# Altium integrated library AD Microcontroller ARM.IntLib: 47 symbols (part 1 of 3)
Pins are listed as number, name and electrical type; pins without a type are passive.

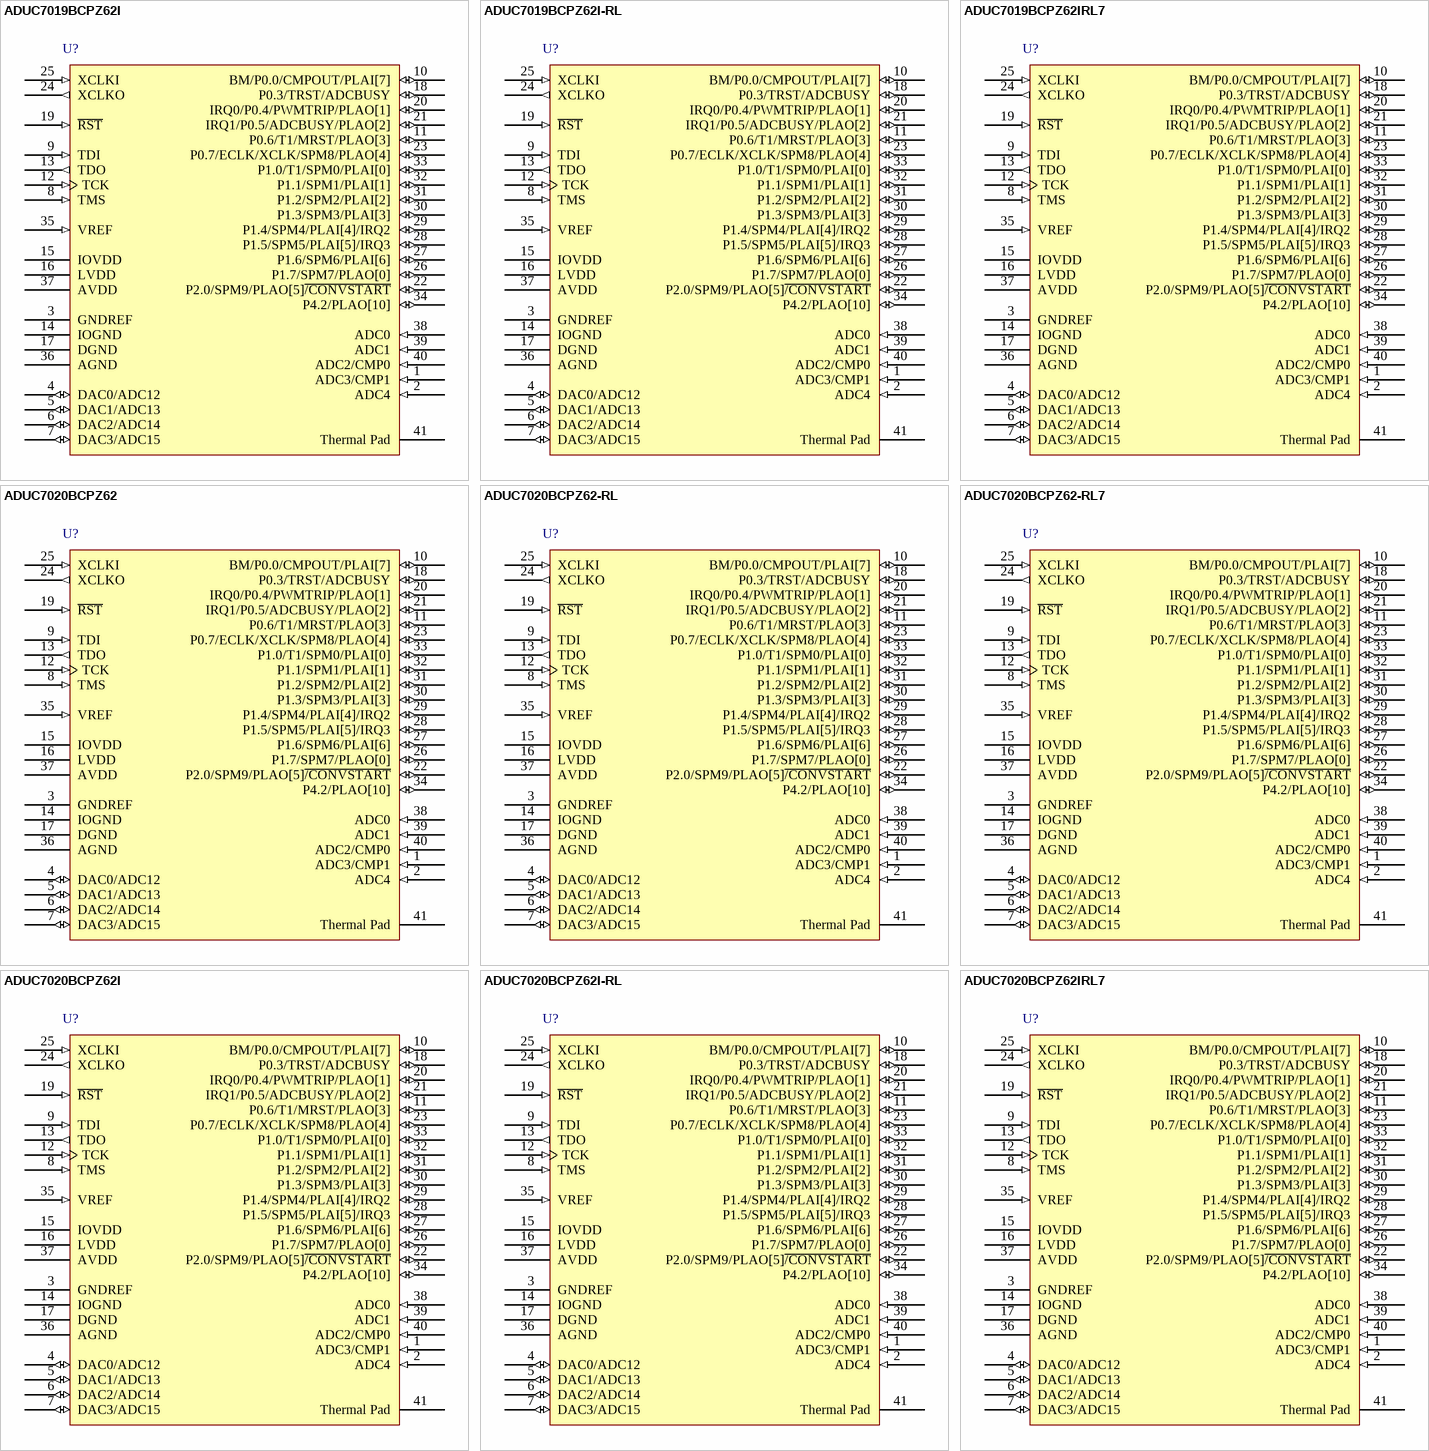
[diagram p0: symbols ADUC7019BCPZ62I to ADUC7020BCPZ62IRL7]

## ADUC7019BCPZ62I
designator U?
12-Bit Data Acquisition SOC, 40 MIPS ARM7 Flash MCU, 5 Channel ADC, 3 Channel DAC, 14 I/Os, 40-Pin LFCSP_VQ, Pb-Free; Published: 30-Mar-2007; DatasheetVersion: RevA, Jan-2006; PackageVersion: Oct-2006; PackageReference: CP-40-1; Publisher: Altium Limited; PackageDescription: 40-Pin Lead Frame Chip Scale Package [LFCSP_VQ] Very Thin Quad; Code_JEDEC: MO-220-VJJD-2; ComponentLink1Description: Manufacturer Link; ComponentLink1URL: http://www.analog.com/en/prod/0,,762_0_ADUC7019%2C00.html; ComponentLink2Description: Datasheet; ComponentLink2URL: http://www.analog.com/UploadedFiles/Data_Sheets/ADUC7019_7020_7021_7022_7024_7025_7026_7027.pdf; ComponentLink3Description: Packaging Specification; ComponentLink3URL: http://www.analog.com/UploadedFiles/Packages/121879268CP_40_1.pdf
footprint CP-40-1_N (QFN, 40-Leads, Body 6x6mm, Pitch 0.5mm, IPC Medium Density)
footprint CP-40-1_L (QFN, 40-Leads, Body 6x6mm, Pitch 0.5mm, IPC High Density)
footprint CP-40-1_M (QFN, 40-Leads, Body 6x6mm, Pitch 0.5mm, IPC Low Density)
pins: 1 ADC3/CMP1 (in), 2 ADC4 (in), 3 GNDREF (power), 4 DAC0/ADC12 (io), 5 DAC1/ADC13 (io), 6 DAC2/ADC14 (io), 7 DAC3/ADC15 (io), 8 TMS (in), 9 TDI (in), 10 BM/P0.0/CMPOUT/PLAI[7] (io), 11 P0.6/T1/MRST/PLAO[3] (io), 12 TCK (in), 13 TDO (out), 14 IOGND (power), 15 IOVDD (power), 16 LVDD (power), 17 DGND (power), 18 P0.3/TRST/ADCBUSY (io), 19 ~{RST} (in), 20 IRQ0/P0.4/PWMTRIP/PLAO[1] (io), 21 IRQ1/P0.5/ADCBUSY/PLAO[2] (io), 22 P2.0/SPM9/PLAO[5]~{/CONVSTART} (io), 23 P0.7/ECLK/XCLK/SPM8/PLAO[4] (io), 24 XCLKO (out), 25 XCLKI (in), 26 P1.7/SPM7/PLAO[0] (io), 27 P1.6/SPM6/PLAI[6] (io), 28 P1.5/SPM5/PLAI[5]/IRQ3 (io), 29 P1.4/SPM4/PLAI[4]/IRQ2 (io), 30 P1.3/SPM3/PLAI[3] (io), 31 P1.2/SPM2/PLAI[2] (io), 32 P1.1/SPM1/PLAI[1] (io), 33 P1.0/T1/SPM0/PLAI[0] (io), 34 P4.2/PLAO[10] (io), 35 VREF (in), 36 AGND (power), 37 AVDD (power), 38 ADC0 (in), 39 ADC1 (in), 40 ADC2/CMP0 (in), 41 Thermal Pad

## ADUC7019BCPZ62I-RL
designator U?
12-Bit Data Acquisition SOC, 40 MIPS ARM7 Flash MCU, 5 Channel ADC, 3 Channel DAC, 14 I/Os, 40-Pin LFCSP_VQ, Pb-Free; Published: 30-Mar-2007; DatasheetVersion: RevA, Jan-2006; PackageVersion: Oct-2006; PackageReference: CP-40-1; Publisher: Altium Limited; PackageDescription: 40-Pin Lead Frame Chip Scale Package [LFCSP_VQ] Very Thin Quad; Code_JEDEC: MO-220-VJJD-2; ComponentLink1Description: Manufacturer Link; ComponentLink1URL: http://www.analog.com/en/prod/0,,762_0_ADUC7019%2C00.html; ComponentLink2Description: Datasheet; ComponentLink2URL: http://www.analog.com/UploadedFiles/Data_Sheets/ADUC7019_7020_7021_7022_7024_7025_7026_7027.pdf; ComponentLink3Description: Packaging Specification; ComponentLink3URL: http://www.analog.com/UploadedFiles/Packages/121879268CP_40_1.pdf
footprint CP-40-1_N (QFN, 40-Leads, Body 6x6mm, Pitch 0.5mm, IPC Medium Density)
footprint CP-40-1_L (QFN, 40-Leads, Body 6x6mm, Pitch 0.5mm, IPC High Density)
footprint CP-40-1_M (QFN, 40-Leads, Body 6x6mm, Pitch 0.5mm, IPC Low Density)
pins: 1 ADC3/CMP1 (in), 2 ADC4 (in), 3 GNDREF (power), 4 DAC0/ADC12 (io), 5 DAC1/ADC13 (io), 6 DAC2/ADC14 (io), 7 DAC3/ADC15 (io), 8 TMS (in), 9 TDI (in), 10 BM/P0.0/CMPOUT/PLAI[7] (io), 11 P0.6/T1/MRST/PLAO[3] (io), 12 TCK (in), 13 TDO (out), 14 IOGND (power), 15 IOVDD (power), 16 LVDD (power), 17 DGND (power), 18 P0.3/TRST/ADCBUSY (io), 19 ~{RST} (in), 20 IRQ0/P0.4/PWMTRIP/PLAO[1] (io), 21 IRQ1/P0.5/ADCBUSY/PLAO[2] (io), 22 P2.0/SPM9/PLAO[5]~{/CONVSTART} (io), 23 P0.7/ECLK/XCLK/SPM8/PLAO[4] (io), 24 XCLKO (out), 25 XCLKI (in), 26 P1.7/SPM7/PLAO[0] (io), 27 P1.6/SPM6/PLAI[6] (io), 28 P1.5/SPM5/PLAI[5]/IRQ3 (io), 29 P1.4/SPM4/PLAI[4]/IRQ2 (io), 30 P1.3/SPM3/PLAI[3] (io), 31 P1.2/SPM2/PLAI[2] (io), 32 P1.1/SPM1/PLAI[1] (io), 33 P1.0/T1/SPM0/PLAI[0] (io), 34 P4.2/PLAO[10] (io), 35 VREF (in), 36 AGND (power), 37 AVDD (power), 38 ADC0 (in), 39 ADC1 (in), 40 ADC2/CMP0 (in), 41 Thermal Pad

## ADUC7019BCPZ62IRL7
designator U?
12-Bit Data Acquisition SOC, 40 MIPS ARM7 Flash MCU, 5 Channel ADC, 3 Channel DAC, 14 I/Os, 40-Pin LFCSP_VQ, Pb-Free; Published: 30-Mar-2007; DatasheetVersion: RevA, Jan-2006; PackageVersion: Oct-2006; PackageReference: CP-40-1; Publisher: Altium Limited; PackageDescription: 40-Pin Lead Frame Chip Scale Package [LFCSP_VQ] Very Thin Quad; Code_JEDEC: MO-220-VJJD-2; ComponentLink1Description: Manufacturer Link; ComponentLink1URL: http://www.analog.com/en/prod/0,,762_0_ADUC7019%2C00.html; ComponentLink2Description: Datasheet; ComponentLink2URL: http://www.analog.com/UploadedFiles/Data_Sheets/ADUC7019_7020_7021_7022_7024_7025_7026_7027.pdf; ComponentLink3Description: Packaging Specification; ComponentLink3URL: http://www.analog.com/UploadedFiles/Packages/121879268CP_40_1.pdf
footprint CP-40-1_N (QFN, 40-Leads, Body 6x6mm, Pitch 0.5mm, IPC Medium Density)
footprint CP-40-1_L (QFN, 40-Leads, Body 6x6mm, Pitch 0.5mm, IPC High Density)
footprint CP-40-1_M (QFN, 40-Leads, Body 6x6mm, Pitch 0.5mm, IPC Low Density)
pins: 1 ADC3/CMP1 (in), 2 ADC4 (in), 3 GNDREF (power), 4 DAC0/ADC12 (io), 5 DAC1/ADC13 (io), 6 DAC2/ADC14 (io), 7 DAC3/ADC15 (io), 8 TMS (in), 9 TDI (in), 10 BM/P0.0/CMPOUT/PLAI[7] (io), 11 P0.6/T1/MRST/PLAO[3] (io), 12 TCK (in), 13 TDO (out), 14 IOGND (power), 15 IOVDD (power), 16 LVDD (power), 17 DGND (power), 18 P0.3/TRST/ADCBUSY (io), 19 ~{RST} (in), 20 IRQ0/P0.4/PWMTRIP/PLAO[1] (io), 21 IRQ1/P0.5/ADCBUSY/PLAO[2] (io), 22 P2.0/SPM9/PLAO[5]~{/CONVSTART} (io), 23 P0.7/ECLK/XCLK/SPM8/PLAO[4] (io), 24 XCLKO (out), 25 XCLKI (in), 26 P1.7/SPM7/PLAO[0] (io), 27 P1.6/SPM6/PLAI[6] (io), 28 P1.5/SPM5/PLAI[5]/IRQ3 (io), 29 P1.4/SPM4/PLAI[4]/IRQ2 (io), 30 P1.3/SPM3/PLAI[3] (io), 31 P1.2/SPM2/PLAI[2] (io), 32 P1.1/SPM1/PLAI[1] (io), 33 P1.0/T1/SPM0/PLAI[0] (io), 34 P4.2/PLAO[10] (io), 35 VREF (in), 36 AGND (power), 37 AVDD (power), 38 ADC0 (in), 39 ADC1 (in), 40 ADC2/CMP0 (in), 41 Thermal Pad

## ADUC7020BCPZ62
designator U?
12-Bit Data Acquisition SOC, 40 MIPS ARM7 Flash MCU, 5 Channel ADC, 4 Channel DAC, 14 I/Os, 40-Pin LFCSP_VQ, Pb-Free; Published: 30-Mar-2007; DatasheetVersion: RevA, Jan-2006; PackageVersion: Oct-2006; PackageReference: CP-40-1; Publisher: Altium Limited; PackageDescription: 40-Pin Lead Frame Chip Scale Package [LFCSP_VQ] Very Thin Quad; Code_JEDEC: MO-220-VJJD-2; ComponentLink1Description: Manufacturer Link; ComponentLink1URL: http://www.analog.com/en/prod/0,,762_0_ADUC7020%2C00.html; ComponentLink2Description: Datasheet; ComponentLink2URL: http://www.analog.com/UploadedFiles/Data_Sheets/ADUC7019_7020_7021_7022_7024_7025_7026_7027.pdf; ComponentLink3Description: Packaging Specification; ComponentLink3URL: http://www.analog.com/UploadedFiles/Packages/121879268CP_40_1.pdf
footprint CP-40-1_N (QFN, 40-Leads, Body 6x6mm, Pitch 0.5mm, IPC Medium Density)
footprint CP-40-1_L (QFN, 40-Leads, Body 6x6mm, Pitch 0.5mm, IPC High Density)
footprint CP-40-1_M (QFN, 40-Leads, Body 6x6mm, Pitch 0.5mm, IPC Low Density)
pins: 1 ADC3/CMP1 (in), 2 ADC4 (in), 3 GNDREF (power), 4 DAC0/ADC12 (io), 5 DAC1/ADC13 (io), 6 DAC2/ADC14 (io), 7 DAC3/ADC15 (io), 8 TMS (in), 9 TDI (in), 10 BM/P0.0/CMPOUT/PLAI[7] (io), 11 P0.6/T1/MRST/PLAO[3] (io), 12 TCK (in), 13 TDO (out), 14 IOGND (power), 15 IOVDD (power), 16 LVDD (power), 17 DGND (power), 18 P0.3/TRST/ADCBUSY (io), 19 ~{RST} (in), 20 IRQ0/P0.4/PWMTRIP/PLAO[1] (io), 21 IRQ1/P0.5/ADCBUSY/PLAO[2] (io), 22 P2.0/SPM9/PLAO[5]~{/CONVSTART} (io), 23 P0.7/ECLK/XCLK/SPM8/PLAO[4] (io), 24 XCLKO (out), 25 XCLKI (in), 26 P1.7/SPM7/PLAO[0] (io), 27 P1.6/SPM6/PLAI[6] (io), 28 P1.5/SPM5/PLAI[5]/IRQ3 (io), 29 P1.4/SPM4/PLAI[4]/IRQ2 (io), 30 P1.3/SPM3/PLAI[3] (io), 31 P1.2/SPM2/PLAI[2] (io), 32 P1.1/SPM1/PLAI[1] (io), 33 P1.0/T1/SPM0/PLAI[0] (io), 34 P4.2/PLAO[10] (io), 35 VREF (in), 36 AGND (power), 37 AVDD (power), 38 ADC0 (in), 39 ADC1 (in), 40 ADC2/CMP0 (in), 41 Thermal Pad

## ADUC7020BCPZ62-RL
designator U?
12-Bit Data Acquisition SOC, 40 MIPS ARM7 Flash MCU, 5 Channel ADC, 4 Channel DAC, 14 I/Os, 40-Pin LFCSP_VQ, Pb-Free; Published: 30-Mar-2007; DatasheetVersion: RevA, Jan-2006; PackageVersion: Oct-2006; PackageReference: CP-40-1; Publisher: Altium Limited; PackageDescription: 40-Pin Lead Frame Chip Scale Package [LFCSP_VQ] Very Thin Quad; Code_JEDEC: MO-220-VJJD-2; ComponentLink1Description: Manufacturer Link; ComponentLink1URL: http://www.analog.com/en/prod/0,,762_0_ADUC7020%2C00.html; ComponentLink2Description: Datasheet; ComponentLink2URL: http://www.analog.com/UploadedFiles/Data_Sheets/ADUC7019_7020_7021_7022_7024_7025_7026_7027.pdf; ComponentLink3Description: Packaging Specification; ComponentLink3URL: http://www.analog.com/UploadedFiles/Packages/121879268CP_40_1.pdf
footprint CP-40-1_N (QFN, 40-Leads, Body 6x6mm, Pitch 0.5mm, IPC Medium Density)
footprint CP-40-1_L (QFN, 40-Leads, Body 6x6mm, Pitch 0.5mm, IPC High Density)
footprint CP-40-1_M (QFN, 40-Leads, Body 6x6mm, Pitch 0.5mm, IPC Low Density)
pins: 1 ADC3/CMP1 (in), 2 ADC4 (in), 3 GNDREF (power), 4 DAC0/ADC12 (io), 5 DAC1/ADC13 (io), 6 DAC2/ADC14 (io), 7 DAC3/ADC15 (io), 8 TMS (in), 9 TDI (in), 10 BM/P0.0/CMPOUT/PLAI[7] (io), 11 P0.6/T1/MRST/PLAO[3] (io), 12 TCK (in), 13 TDO (out), 14 IOGND (power), 15 IOVDD (power), 16 LVDD (power), 17 DGND (power), 18 P0.3/TRST/ADCBUSY (io), 19 ~{RST} (in), 20 IRQ0/P0.4/PWMTRIP/PLAO[1] (io), 21 IRQ1/P0.5/ADCBUSY/PLAO[2] (io), 22 P2.0/SPM9/PLAO[5]~{/CONVSTART} (io), 23 P0.7/ECLK/XCLK/SPM8/PLAO[4] (io), 24 XCLKO (out), 25 XCLKI (in), 26 P1.7/SPM7/PLAO[0] (io), 27 P1.6/SPM6/PLAI[6] (io), 28 P1.5/SPM5/PLAI[5]/IRQ3 (io), 29 P1.4/SPM4/PLAI[4]/IRQ2 (io), 30 P1.3/SPM3/PLAI[3] (io), 31 P1.2/SPM2/PLAI[2] (io), 32 P1.1/SPM1/PLAI[1] (io), 33 P1.0/T1/SPM0/PLAI[0] (io), 34 P4.2/PLAO[10] (io), 35 VREF (in), 36 AGND (power), 37 AVDD (power), 38 ADC0 (in), 39 ADC1 (in), 40 ADC2/CMP0 (in), 41 Thermal Pad

## ADUC7020BCPZ62-RL7
designator U?
12-Bit Data Acquisition SOC, 40 MIPS ARM7 Flash MCU, 5 Channel ADC, 4 Channel DAC, 14 I/Os, 40-Pin LFCSP_VQ, Pb-Free; Published: 30-Mar-2007; DatasheetVersion: RevA, Jan-2006; PackageVersion: Oct-2006; PackageReference: CP-40-1; Publisher: Altium Limited; PackageDescription: 40-Pin Lead Frame Chip Scale Package [LFCSP_VQ] Very Thin Quad; Code_JEDEC: MO-220-VJJD-2; ComponentLink1Description: Manufacturer Link; ComponentLink1URL: http://www.analog.com/en/prod/0,,762_0_ADUC7020%2C00.html; ComponentLink2Description: Datasheet; ComponentLink2URL: http://www.analog.com/UploadedFiles/Data_Sheets/ADUC7019_7020_7021_7022_7024_7025_7026_7027.pdf; ComponentLink3Description: Packaging Specification; ComponentLink3URL: http://www.analog.com/UploadedFiles/Packages/121879268CP_40_1.pdf
footprint CP-40-1_N (QFN, 40-Leads, Body 6x6mm, Pitch 0.5mm, IPC Medium Density)
footprint CP-40-1_L (QFN, 40-Leads, Body 6x6mm, Pitch 0.5mm, IPC High Density)
footprint CP-40-1_M (QFN, 40-Leads, Body 6x6mm, Pitch 0.5mm, IPC Low Density)
pins: 1 ADC3/CMP1 (in), 2 ADC4 (in), 3 GNDREF (power), 4 DAC0/ADC12 (io), 5 DAC1/ADC13 (io), 6 DAC2/ADC14 (io), 7 DAC3/ADC15 (io), 8 TMS (in), 9 TDI (in), 10 BM/P0.0/CMPOUT/PLAI[7] (io), 11 P0.6/T1/MRST/PLAO[3] (io), 12 TCK (in), 13 TDO (out), 14 IOGND (power), 15 IOVDD (power), 16 LVDD (power), 17 DGND (power), 18 P0.3/TRST/ADCBUSY (io), 19 ~{RST} (in), 20 IRQ0/P0.4/PWMTRIP/PLAO[1] (io), 21 IRQ1/P0.5/ADCBUSY/PLAO[2] (io), 22 P2.0/SPM9/PLAO[5]~{/CONVSTART} (io), 23 P0.7/ECLK/XCLK/SPM8/PLAO[4] (io), 24 XCLKO (out), 25 XCLKI (in), 26 P1.7/SPM7/PLAO[0] (io), 27 P1.6/SPM6/PLAI[6] (io), 28 P1.5/SPM5/PLAI[5]/IRQ3 (io), 29 P1.4/SPM4/PLAI[4]/IRQ2 (io), 30 P1.3/SPM3/PLAI[3] (io), 31 P1.2/SPM2/PLAI[2] (io), 32 P1.1/SPM1/PLAI[1] (io), 33 P1.0/T1/SPM0/PLAI[0] (io), 34 P4.2/PLAO[10] (io), 35 VREF (in), 36 AGND (power), 37 AVDD (power), 38 ADC0 (in), 39 ADC1 (in), 40 ADC2/CMP0 (in), 41 Thermal Pad

## ADUC7020BCPZ62I
designator U?
12-Bit Data Acquisition SOC, 40 MIPS ARM7 Flash MCU, 5 Channel ADC, 4 Channel DAC, 14 I/Os, 40-Pin LFCSP_VQ, Pb-Free; Published: 30-Mar-2007; DatasheetVersion: RevA, Jan-2006; PackageVersion: Oct-2006; PackageReference: CP-40-1; Publisher: Altium Limited; PackageDescription: 40-Pin Lead Frame Chip Scale Package [LFCSP_VQ] Very Thin Quad; Code_JEDEC: MO-220-VJJD-2; ComponentLink1Description: Manufacturer Link; ComponentLink1URL: http://www.analog.com/en/prod/0,,762_0_ADUC7020%2C00.html; ComponentLink2Description: Datasheet; ComponentLink2URL: http://www.analog.com/UploadedFiles/Data_Sheets/ADUC7019_7020_7021_7022_7024_7025_7026_7027.pdf; ComponentLink3Description: Packaging Specification; ComponentLink3URL: http://www.analog.com/UploadedFiles/Packages/121879268CP_40_1.pdf
footprint CP-40-1_N (QFN, 40-Leads, Body 6x6mm, Pitch 0.5mm, IPC Medium Density)
footprint CP-40-1_L (QFN, 40-Leads, Body 6x6mm, Pitch 0.5mm, IPC High Density)
footprint CP-40-1_M (QFN, 40-Leads, Body 6x6mm, Pitch 0.5mm, IPC Low Density)
pins: 1 ADC3/CMP1 (in), 2 ADC4 (in), 3 GNDREF (power), 4 DAC0/ADC12 (io), 5 DAC1/ADC13 (io), 6 DAC2/ADC14 (io), 7 DAC3/ADC15 (io), 8 TMS (in), 9 TDI (in), 10 BM/P0.0/CMPOUT/PLAI[7] (io), 11 P0.6/T1/MRST/PLAO[3] (io), 12 TCK (in), 13 TDO (out), 14 IOGND (power), 15 IOVDD (power), 16 LVDD (power), 17 DGND (power), 18 P0.3/TRST/ADCBUSY (io), 19 ~{RST} (in), 20 IRQ0/P0.4/PWMTRIP/PLAO[1] (io), 21 IRQ1/P0.5/ADCBUSY/PLAO[2] (io), 22 P2.0/SPM9/PLAO[5]~{/CONVSTART} (io), 23 P0.7/ECLK/XCLK/SPM8/PLAO[4] (io), 24 XCLKO (out), 25 XCLKI (in), 26 P1.7/SPM7/PLAO[0] (io), 27 P1.6/SPM6/PLAI[6] (io), 28 P1.5/SPM5/PLAI[5]/IRQ3 (io), 29 P1.4/SPM4/PLAI[4]/IRQ2 (io), 30 P1.3/SPM3/PLAI[3] (io), 31 P1.2/SPM2/PLAI[2] (io), 32 P1.1/SPM1/PLAI[1] (io), 33 P1.0/T1/SPM0/PLAI[0] (io), 34 P4.2/PLAO[10] (io), 35 VREF (in), 36 AGND (power), 37 AVDD (power), 38 ADC0 (in), 39 ADC1 (in), 40 ADC2/CMP0 (in), 41 Thermal Pad

## ADUC7020BCPZ62I-RL
designator U?
12-Bit Data Acquisition SOC, 40 MIPS ARM7 Flash MCU, 5 Channel ADC, 4 Channel DAC, 14 I/Os, 40-Pin LFCSP_VQ, Pb-Free; Published: 30-Mar-2007; DatasheetVersion: RevA, Jan-2006; PackageVersion: Oct-2006; PackageReference: CP-40-1; Publisher: Altium Limited; PackageDescription: 40-Pin Lead Frame Chip Scale Package [LFCSP_VQ] Very Thin Quad; Code_JEDEC: MO-220-VJJD-2; ComponentLink1Description: Manufacturer Link; ComponentLink1URL: http://www.analog.com/en/prod/0,,762_0_ADUC7020%2C00.html; ComponentLink2Description: Datasheet; ComponentLink2URL: http://www.analog.com/UploadedFiles/Data_Sheets/ADUC7019_7020_7021_7022_7024_7025_7026_7027.pdf; ComponentLink3Description: Packaging Specification; ComponentLink3URL: http://www.analog.com/UploadedFiles/Packages/121879268CP_40_1.pdf
footprint CP-40-1_N (QFN, 40-Leads, Body 6x6mm, Pitch 0.5mm, IPC Medium Density)
footprint CP-40-1_L (QFN, 40-Leads, Body 6x6mm, Pitch 0.5mm, IPC High Density)
footprint CP-40-1_M (QFN, 40-Leads, Body 6x6mm, Pitch 0.5mm, IPC Low Density)
pins: 1 ADC3/CMP1 (in), 2 ADC4 (in), 3 GNDREF (power), 4 DAC0/ADC12 (io), 5 DAC1/ADC13 (io), 6 DAC2/ADC14 (io), 7 DAC3/ADC15 (io), 8 TMS (in), 9 TDI (in), 10 BM/P0.0/CMPOUT/PLAI[7] (io), 11 P0.6/T1/MRST/PLAO[3] (io), 12 TCK (in), 13 TDO (out), 14 IOGND (power), 15 IOVDD (power), 16 LVDD (power), 17 DGND (power), 18 P0.3/TRST/ADCBUSY (io), 19 ~{RST} (in), 20 IRQ0/P0.4/PWMTRIP/PLAO[1] (io), 21 IRQ1/P0.5/ADCBUSY/PLAO[2] (io), 22 P2.0/SPM9/PLAO[5]~{/CONVSTART} (io), 23 P0.7/ECLK/XCLK/SPM8/PLAO[4] (io), 24 XCLKO (out), 25 XCLKI (in), 26 P1.7/SPM7/PLAO[0] (io), 27 P1.6/SPM6/PLAI[6] (io), 28 P1.5/SPM5/PLAI[5]/IRQ3 (io), 29 P1.4/SPM4/PLAI[4]/IRQ2 (io), 30 P1.3/SPM3/PLAI[3] (io), 31 P1.2/SPM2/PLAI[2] (io), 32 P1.1/SPM1/PLAI[1] (io), 33 P1.0/T1/SPM0/PLAI[0] (io), 34 P4.2/PLAO[10] (io), 35 VREF (in), 36 AGND (power), 37 AVDD (power), 38 ADC0 (in), 39 ADC1 (in), 40 ADC2/CMP0 (in), 41 Thermal Pad

## ADUC7020BCPZ62IRL7
designator U?
12-Bit Data Acquisition SOC, 40 MIPS ARM7 Flash MCU, 5 Channel ADC, 4 Channel DAC, 14 I/Os, 40-Pin LFCSP_VQ, Pb-Free; Published: 30-Mar-2007; DatasheetVersion: RevA, Jan-2006; PackageVersion: Oct-2006; PackageReference: CP-40-1; Publisher: Altium Limited; PackageDescription: 40-Pin Lead Frame Chip Scale Package [LFCSP_VQ] Very Thin Quad; Code_JEDEC: MO-220-VJJD-2; ComponentLink1Description: Manufacturer Link; ComponentLink1URL: http://www.analog.com/en/prod/0,,762_0_ADUC7020%2C00.html; ComponentLink2Description: Datasheet; ComponentLink2URL: http://www.analog.com/UploadedFiles/Data_Sheets/ADUC7019_7020_7021_7022_7024_7025_7026_7027.pdf; ComponentLink3Description: Packaging Specification; ComponentLink3URL: http://www.analog.com/UploadedFiles/Packages/121879268CP_40_1.pdf
footprint CP-40-1_N (QFN, 40-Leads, Body 6x6mm, Pitch 0.5mm, IPC Medium Density)
footprint CP-40-1_L (QFN, 40-Leads, Body 6x6mm, Pitch 0.5mm, IPC High Density)
footprint CP-40-1_M (QFN, 40-Leads, Body 6x6mm, Pitch 0.5mm, IPC Low Density)
pins: 1 ADC3/CMP1 (in), 2 ADC4 (in), 3 GNDREF (power), 4 DAC0/ADC12 (io), 5 DAC1/ADC13 (io), 6 DAC2/ADC14 (io), 7 DAC3/ADC15 (io), 8 TMS (in), 9 TDI (in), 10 BM/P0.0/CMPOUT/PLAI[7] (io), 11 P0.6/T1/MRST/PLAO[3] (io), 12 TCK (in), 13 TDO (out), 14 IOGND (power), 15 IOVDD (power), 16 LVDD (power), 17 DGND (power), 18 P0.3/TRST/ADCBUSY (io), 19 ~{RST} (in), 20 IRQ0/P0.4/PWMTRIP/PLAO[1] (io), 21 IRQ1/P0.5/ADCBUSY/PLAO[2] (io), 22 P2.0/SPM9/PLAO[5]~{/CONVSTART} (io), 23 P0.7/ECLK/XCLK/SPM8/PLAO[4] (io), 24 XCLKO (out), 25 XCLKI (in), 26 P1.7/SPM7/PLAO[0] (io), 27 P1.6/SPM6/PLAI[6] (io), 28 P1.5/SPM5/PLAI[5]/IRQ3 (io), 29 P1.4/SPM4/PLAI[4]/IRQ2 (io), 30 P1.3/SPM3/PLAI[3] (io), 31 P1.2/SPM2/PLAI[2] (io), 32 P1.1/SPM1/PLAI[1] (io), 33 P1.0/T1/SPM0/PLAI[0] (io), 34 P4.2/PLAO[10] (io), 35 VREF (in), 36 AGND (power), 37 AVDD (power), 38 ADC0 (in), 39 ADC1 (in), 40 ADC2/CMP0 (in), 41 Thermal Pad

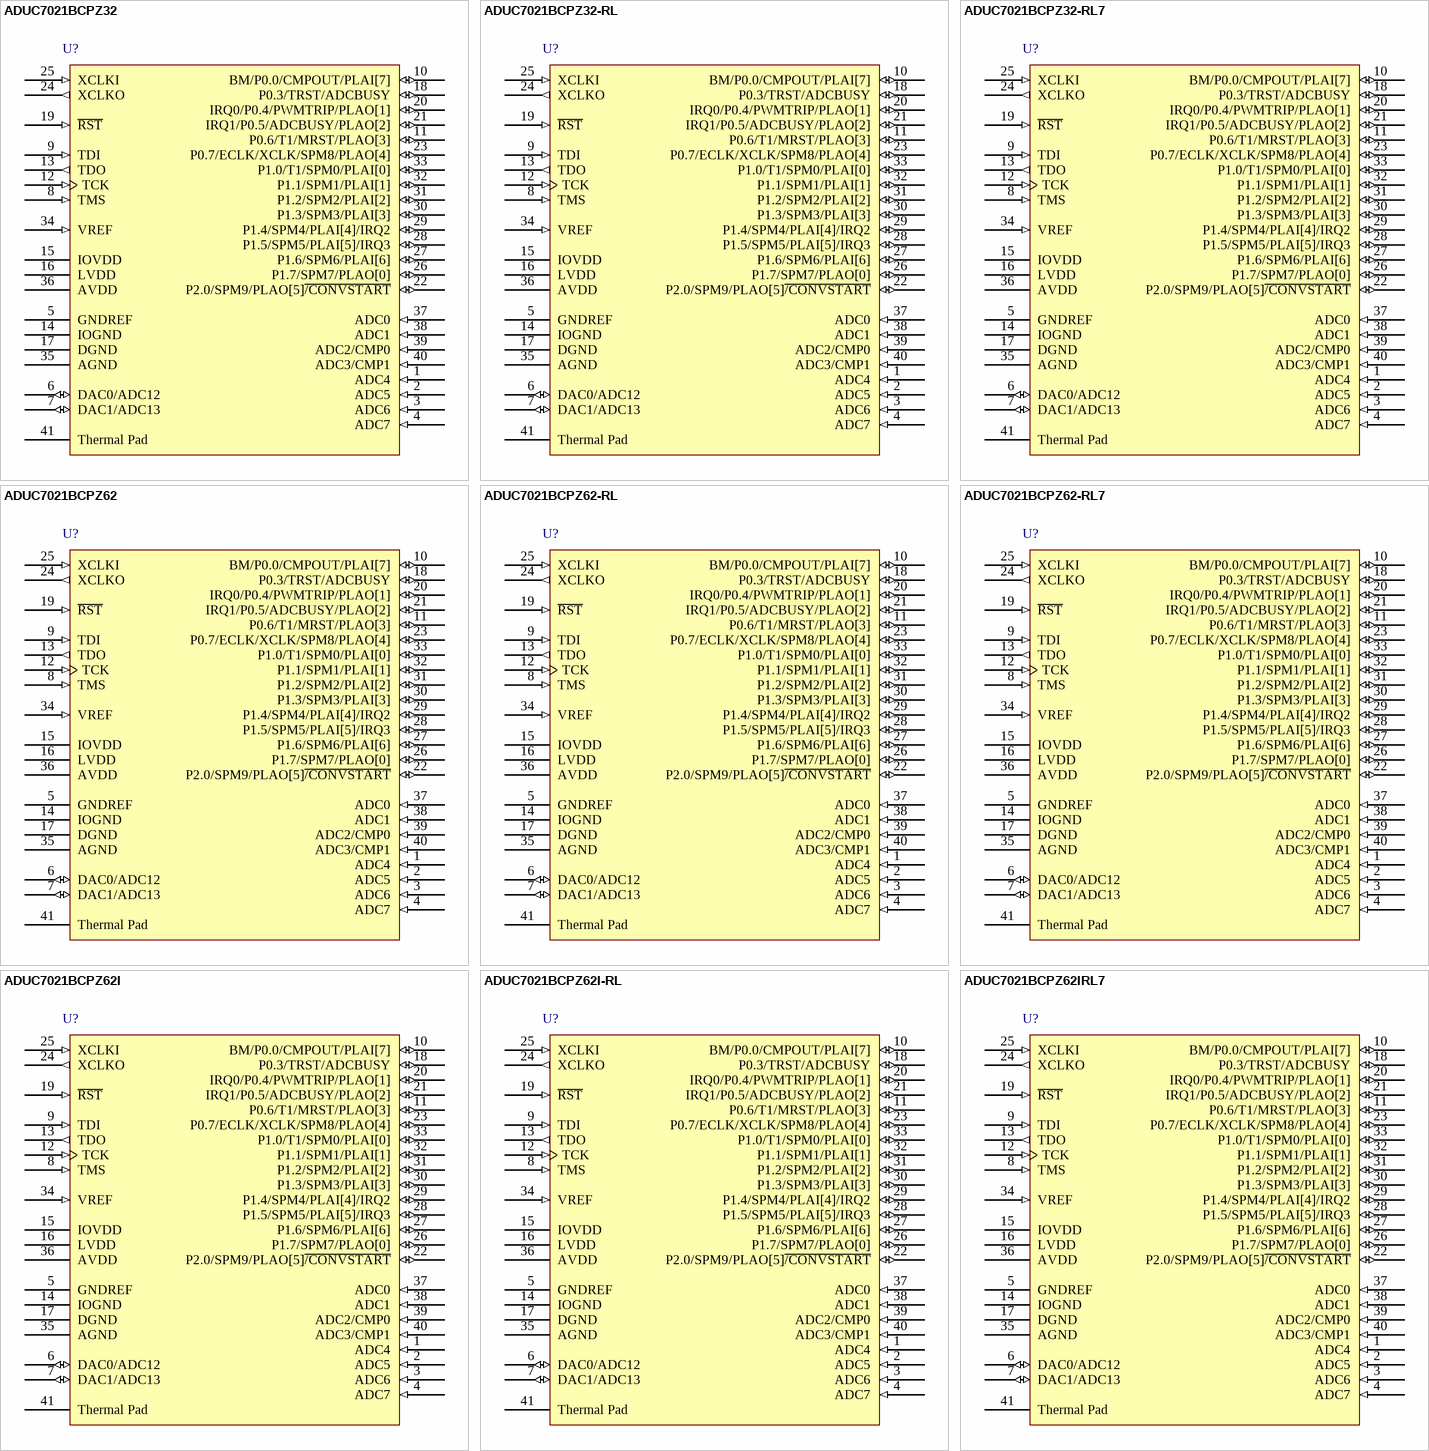
[diagram p1: symbols ADUC7021BCPZ32 to ADUC7021BCPZ62IRL7]

## ADUC7021BCPZ32
designator U?
12-Bit Data Acquisition SOC, 40 MIPS ARM7 Flash MCU, 8 Channel ADC, 2 Channel DAC, 13 I/Os, 40-Pin LFCSP_VQ, Pb-Free; Published: 30-Mar-2007; DatasheetVersion: RevA, Jan-2006; PackageVersion: Oct-2006; PackageReference: CP-40-1; Publisher: Altium Limited; PackageDescription: 40-Pin Lead Frame Chip Scale Package [LFCSP_VQ] Very Thin Quad; Code_JEDEC: MO-220-VJJD-2; ComponentLink1Description: Manufacturer Link; ComponentLink1URL: http://www.analog.com/en/prod/0,,762_0_ADUC7021%2C00.html; ComponentLink2Description: Datasheet; ComponentLink2URL: http://www.analog.com/UploadedFiles/Data_Sheets/ADUC7019_7020_7021_7022_7024_7025_7026_7027.pdf; ComponentLink3Description: Packaging Specification; ComponentLink3URL: http://www.analog.com/UploadedFiles/Packages/121879268CP_40_1.pdf
footprint CP-40-1_N (QFN, 40-Leads, Body 6x6mm, Pitch 0.5mm, IPC Medium Density)
footprint CP-40-1_L (QFN, 40-Leads, Body 6x6mm, Pitch 0.5mm, IPC High Density)
footprint CP-40-1_M (QFN, 40-Leads, Body 6x6mm, Pitch 0.5mm, IPC Low Density)
pins: 1 ADC4 (in), 2 ADC5 (in), 3 ADC6 (in), 4 ADC7 (in), 5 GNDREF (power), 6 DAC0/ADC12 (io), 7 DAC1/ADC13 (io), 8 TMS (in), 9 TDI (in), 10 BM/P0.0/CMPOUT/PLAI[7] (io), 11 P0.6/T1/MRST/PLAO[3] (io), 12 TCK (in), 13 TDO (out), 14 IOGND (power), 15 IOVDD (power), 16 LVDD (power), 17 DGND (power), 18 P0.3/TRST/ADCBUSY (io), 19 ~{RST} (in), 20 IRQ0/P0.4/PWMTRIP/PLAO[1] (io), 21 IRQ1/P0.5/ADCBUSY/PLAO[2] (io), 22 P2.0/SPM9/PLAO[5]~{/CONVSTART} (io), 23 P0.7/ECLK/XCLK/SPM8/PLAO[4] (io), 24 XCLKO (out), 25 XCLKI (in), 26 P1.7/SPM7/PLAO[0] (io), 27 P1.6/SPM6/PLAI[6] (io), 28 P1.5/SPM5/PLAI[5]/IRQ3 (io), 29 P1.4/SPM4/PLAI[4]/IRQ2 (io), 30 P1.3/SPM3/PLAI[3] (io), 31 P1.2/SPM2/PLAI[2] (io), 32 P1.1/SPM1/PLAI[1] (io), 33 P1.0/T1/SPM0/PLAI[0] (io), 34 VREF (in), 35 AGND (power), 36 AVDD (power), 37 ADC0 (in), 38 ADC1 (in), 39 ADC2/CMP0 (in), 40 ADC3/CMP1 (in), 41 Thermal Pad

## ADUC7021BCPZ32-RL
designator U?
12-Bit Data Acquisition SOC, 40 MIPS ARM7 Flash MCU, 8 Channel ADC, 2 Channel DAC, 13 I/Os, 40-Pin LFCSP_VQ, Pb-Free; Published: 30-Mar-2007; DatasheetVersion: RevA, Jan-2006; PackageVersion: Oct-2006; PackageReference: CP-40-1; Publisher: Altium Limited; PackageDescription: 40-Pin Lead Frame Chip Scale Package [LFCSP_VQ] Very Thin Quad; Code_JEDEC: MO-220-VJJD-2; ComponentLink1Description: Manufacturer Link; ComponentLink1URL: http://www.analog.com/en/prod/0,,762_0_ADUC7021%2C00.html; ComponentLink2Description: Datasheet; ComponentLink2URL: http://www.analog.com/UploadedFiles/Data_Sheets/ADUC7019_7020_7021_7022_7024_7025_7026_7027.pdf; ComponentLink3Description: Packaging Specification; ComponentLink3URL: http://www.analog.com/UploadedFiles/Packages/121879268CP_40_1.pdf
footprint CP-40-1_N (QFN, 40-Leads, Body 6x6mm, Pitch 0.5mm, IPC Medium Density)
footprint CP-40-1_L (QFN, 40-Leads, Body 6x6mm, Pitch 0.5mm, IPC High Density)
footprint CP-40-1_M (QFN, 40-Leads, Body 6x6mm, Pitch 0.5mm, IPC Low Density)
pins: 1 ADC4 (in), 2 ADC5 (in), 3 ADC6 (in), 4 ADC7 (in), 5 GNDREF (power), 6 DAC0/ADC12 (io), 7 DAC1/ADC13 (io), 8 TMS (in), 9 TDI (in), 10 BM/P0.0/CMPOUT/PLAI[7] (io), 11 P0.6/T1/MRST/PLAO[3] (io), 12 TCK (in), 13 TDO (out), 14 IOGND (power), 15 IOVDD (power), 16 LVDD (power), 17 DGND (power), 18 P0.3/TRST/ADCBUSY (io), 19 ~{RST} (in), 20 IRQ0/P0.4/PWMTRIP/PLAO[1] (io), 21 IRQ1/P0.5/ADCBUSY/PLAO[2] (io), 22 P2.0/SPM9/PLAO[5]~{/CONVSTART} (io), 23 P0.7/ECLK/XCLK/SPM8/PLAO[4] (io), 24 XCLKO (out), 25 XCLKI (in), 26 P1.7/SPM7/PLAO[0] (io), 27 P1.6/SPM6/PLAI[6] (io), 28 P1.5/SPM5/PLAI[5]/IRQ3 (io), 29 P1.4/SPM4/PLAI[4]/IRQ2 (io), 30 P1.3/SPM3/PLAI[3] (io), 31 P1.2/SPM2/PLAI[2] (io), 32 P1.1/SPM1/PLAI[1] (io), 33 P1.0/T1/SPM0/PLAI[0] (io), 34 VREF (in), 35 AGND (power), 36 AVDD (power), 37 ADC0 (in), 38 ADC1 (in), 39 ADC2/CMP0 (in), 40 ADC3/CMP1 (in), 41 Thermal Pad

## ADUC7021BCPZ32-RL7
designator U?
12-Bit Data Acquisition SOC, 40 MIPS ARM7 Flash MCU, 8 Channel ADC, 2 Channel DAC, 13 I/Os, 40-Pin LFCSP_VQ, Pb-Free; Published: 30-Mar-2007; DatasheetVersion: RevA, Jan-2006; PackageVersion: Oct-2006; PackageReference: CP-40-1; Publisher: Altium Limited; PackageDescription: 40-Pin Lead Frame Chip Scale Package [LFCSP_VQ] Very Thin Quad; Code_JEDEC: MO-220-VJJD-2; ComponentLink1Description: Manufacturer Link; ComponentLink1URL: http://www.analog.com/en/prod/0,,762_0_ADUC7021%2C00.html; ComponentLink2Description: Datasheet; ComponentLink2URL: http://www.analog.com/UploadedFiles/Data_Sheets/ADUC7019_7020_7021_7022_7024_7025_7026_7027.pdf; ComponentLink3Description: Packaging Specification; ComponentLink3URL: http://www.analog.com/UploadedFiles/Packages/121879268CP_40_1.pdf
footprint CP-40-1_N (QFN, 40-Leads, Body 6x6mm, Pitch 0.5mm, IPC Medium Density)
footprint CP-40-1_L (QFN, 40-Leads, Body 6x6mm, Pitch 0.5mm, IPC High Density)
footprint CP-40-1_M (QFN, 40-Leads, Body 6x6mm, Pitch 0.5mm, IPC Low Density)
pins: 1 ADC4 (in), 2 ADC5 (in), 3 ADC6 (in), 4 ADC7 (in), 5 GNDREF (power), 6 DAC0/ADC12 (io), 7 DAC1/ADC13 (io), 8 TMS (in), 9 TDI (in), 10 BM/P0.0/CMPOUT/PLAI[7] (io), 11 P0.6/T1/MRST/PLAO[3] (io), 12 TCK (in), 13 TDO (out), 14 IOGND (power), 15 IOVDD (power), 16 LVDD (power), 17 DGND (power), 18 P0.3/TRST/ADCBUSY (io), 19 ~{RST} (in), 20 IRQ0/P0.4/PWMTRIP/PLAO[1] (io), 21 IRQ1/P0.5/ADCBUSY/PLAO[2] (io), 22 P2.0/SPM9/PLAO[5]~{/CONVSTART} (io), 23 P0.7/ECLK/XCLK/SPM8/PLAO[4] (io), 24 XCLKO (out), 25 XCLKI (in), 26 P1.7/SPM7/PLAO[0] (io), 27 P1.6/SPM6/PLAI[6] (io), 28 P1.5/SPM5/PLAI[5]/IRQ3 (io), 29 P1.4/SPM4/PLAI[4]/IRQ2 (io), 30 P1.3/SPM3/PLAI[3] (io), 31 P1.2/SPM2/PLAI[2] (io), 32 P1.1/SPM1/PLAI[1] (io), 33 P1.0/T1/SPM0/PLAI[0] (io), 34 VREF (in), 35 AGND (power), 36 AVDD (power), 37 ADC0 (in), 38 ADC1 (in), 39 ADC2/CMP0 (in), 40 ADC3/CMP1 (in), 41 Thermal Pad

## ADUC7021BCPZ62
designator U?
12-Bit Data Acquisition SOC, 40 MIPS ARM7 Flash MCU, 8 Channel ADC, 2 Channel DAC, 13 I/Os, 40-Pin LFCSP_VQ, Pb-Free; Published: 30-Mar-2007; DatasheetVersion: RevA, Jan-2006; PackageVersion: Oct-2006; PackageReference: CP-40-1; Publisher: Altium Limited; PackageDescription: 40-Pin Lead Frame Chip Scale Package [LFCSP_VQ] Very Thin Quad; Code_JEDEC: MO-220-VJJD-2; ComponentLink1Description: Manufacturer Link; ComponentLink1URL: http://www.analog.com/en/prod/0,,762_0_ADUC7021%2C00.html; ComponentLink2Description: Datasheet; ComponentLink2URL: http://www.analog.com/UploadedFiles/Data_Sheets/ADUC7019_7020_7021_7022_7024_7025_7026_7027.pdf; ComponentLink3Description: Packaging Specification; ComponentLink3URL: http://www.analog.com/UploadedFiles/Packages/121879268CP_40_1.pdf
footprint CP-40-1_N (QFN, 40-Leads, Body 6x6mm, Pitch 0.5mm, IPC Medium Density)
footprint CP-40-1_L (QFN, 40-Leads, Body 6x6mm, Pitch 0.5mm, IPC High Density)
footprint CP-40-1_M (QFN, 40-Leads, Body 6x6mm, Pitch 0.5mm, IPC Low Density)
pins: 1 ADC4 (in), 2 ADC5 (in), 3 ADC6 (in), 4 ADC7 (in), 5 GNDREF (power), 6 DAC0/ADC12 (io), 7 DAC1/ADC13 (io), 8 TMS (in), 9 TDI (in), 10 BM/P0.0/CMPOUT/PLAI[7] (io), 11 P0.6/T1/MRST/PLAO[3] (io), 12 TCK (in), 13 TDO (out), 14 IOGND (power), 15 IOVDD (power), 16 LVDD (power), 17 DGND (power), 18 P0.3/TRST/ADCBUSY (io), 19 ~{RST} (in), 20 IRQ0/P0.4/PWMTRIP/PLAO[1] (io), 21 IRQ1/P0.5/ADCBUSY/PLAO[2] (io), 22 P2.0/SPM9/PLAO[5]~{/CONVSTART} (io), 23 P0.7/ECLK/XCLK/SPM8/PLAO[4] (io), 24 XCLKO (out), 25 XCLKI (in), 26 P1.7/SPM7/PLAO[0] (io), 27 P1.6/SPM6/PLAI[6] (io), 28 P1.5/SPM5/PLAI[5]/IRQ3 (io), 29 P1.4/SPM4/PLAI[4]/IRQ2 (io), 30 P1.3/SPM3/PLAI[3] (io), 31 P1.2/SPM2/PLAI[2] (io), 32 P1.1/SPM1/PLAI[1] (io), 33 P1.0/T1/SPM0/PLAI[0] (io), 34 VREF (in), 35 AGND (power), 36 AVDD (power), 37 ADC0 (in), 38 ADC1 (in), 39 ADC2/CMP0 (in), 40 ADC3/CMP1 (in), 41 Thermal Pad

## ADUC7021BCPZ62-RL
designator U?
12-Bit Data Acquisition SOC, 40 MIPS ARM7 Flash MCU, 8 Channel ADC, 2 Channel DAC, 13 I/Os, 40-Pin LFCSP_VQ, Pb-Free; Published: 30-Mar-2007; DatasheetVersion: RevA, Jan-2006; PackageVersion: Oct-2006; PackageReference: CP-40-1; Publisher: Altium Limited; PackageDescription: 40-Pin Lead Frame Chip Scale Package [LFCSP_VQ] Very Thin Quad; Code_JEDEC: MO-220-VJJD-2; ComponentLink1Description: Manufacturer Link; ComponentLink1URL: http://www.analog.com/en/prod/0,,762_0_ADUC7021%2C00.html; ComponentLink2Description: Datasheet; ComponentLink2URL: http://www.analog.com/UploadedFiles/Data_Sheets/ADUC7019_7020_7021_7022_7024_7025_7026_7027.pdf; ComponentLink3Description: Packaging Specification; ComponentLink3URL: http://www.analog.com/UploadedFiles/Packages/121879268CP_40_1.pdf
footprint CP-40-1_N (QFN, 40-Leads, Body 6x6mm, Pitch 0.5mm, IPC Medium Density)
footprint CP-40-1_L (QFN, 40-Leads, Body 6x6mm, Pitch 0.5mm, IPC High Density)
footprint CP-40-1_M (QFN, 40-Leads, Body 6x6mm, Pitch 0.5mm, IPC Low Density)
pins: 1 ADC4 (in), 2 ADC5 (in), 3 ADC6 (in), 4 ADC7 (in), 5 GNDREF (power), 6 DAC0/ADC12 (io), 7 DAC1/ADC13 (io), 8 TMS (in), 9 TDI (in), 10 BM/P0.0/CMPOUT/PLAI[7] (io), 11 P0.6/T1/MRST/PLAO[3] (io), 12 TCK (in), 13 TDO (out), 14 IOGND (power), 15 IOVDD (power), 16 LVDD (power), 17 DGND (power), 18 P0.3/TRST/ADCBUSY (io), 19 ~{RST} (in), 20 IRQ0/P0.4/PWMTRIP/PLAO[1] (io), 21 IRQ1/P0.5/ADCBUSY/PLAO[2] (io), 22 P2.0/SPM9/PLAO[5]~{/CONVSTART} (io), 23 P0.7/ECLK/XCLK/SPM8/PLAO[4] (io), 24 XCLKO (out), 25 XCLKI (in), 26 P1.7/SPM7/PLAO[0] (io), 27 P1.6/SPM6/PLAI[6] (io), 28 P1.5/SPM5/PLAI[5]/IRQ3 (io), 29 P1.4/SPM4/PLAI[4]/IRQ2 (io), 30 P1.3/SPM3/PLAI[3] (io), 31 P1.2/SPM2/PLAI[2] (io), 32 P1.1/SPM1/PLAI[1] (io), 33 P1.0/T1/SPM0/PLAI[0] (io), 34 VREF (in), 35 AGND (power), 36 AVDD (power), 37 ADC0 (in), 38 ADC1 (in), 39 ADC2/CMP0 (in), 40 ADC3/CMP1 (in), 41 Thermal Pad

## ADUC7021BCPZ62-RL7
designator U?
12-Bit Data Acquisition SOC, 40 MIPS ARM7 Flash MCU, 8 Channel ADC, 2 Channel DAC, 13 I/Os, 40-Pin LFCSP_VQ, Pb-Free; Published: 30-Mar-2007; DatasheetVersion: RevA, Jan-2006; PackageVersion: Oct-2006; PackageReference: CP-40-1; Publisher: Altium Limited; PackageDescription: 40-Pin Lead Frame Chip Scale Package [LFCSP_VQ] Very Thin Quad; Code_JEDEC: MO-220-VJJD-2; ComponentLink1Description: Manufacturer Link; ComponentLink1URL: http://www.analog.com/en/prod/0,,762_0_ADUC7021%2C00.html; ComponentLink2Description: Datasheet; ComponentLink2URL: http://www.analog.com/UploadedFiles/Data_Sheets/ADUC7019_7020_7021_7022_7024_7025_7026_7027.pdf; ComponentLink3Description: Packaging Specification; ComponentLink3URL: http://www.analog.com/UploadedFiles/Packages/121879268CP_40_1.pdf
footprint CP-40-1_N (QFN, 40-Leads, Body 6x6mm, Pitch 0.5mm, IPC Medium Density)
footprint CP-40-1_L (QFN, 40-Leads, Body 6x6mm, Pitch 0.5mm, IPC High Density)
footprint CP-40-1_M (QFN, 40-Leads, Body 6x6mm, Pitch 0.5mm, IPC Low Density)
pins: 1 ADC4 (in), 2 ADC5 (in), 3 ADC6 (in), 4 ADC7 (in), 5 GNDREF (power), 6 DAC0/ADC12 (io), 7 DAC1/ADC13 (io), 8 TMS (in), 9 TDI (in), 10 BM/P0.0/CMPOUT/PLAI[7] (io), 11 P0.6/T1/MRST/PLAO[3] (io), 12 TCK (in), 13 TDO (out), 14 IOGND (power), 15 IOVDD (power), 16 LVDD (power), 17 DGND (power), 18 P0.3/TRST/ADCBUSY (io), 19 ~{RST} (in), 20 IRQ0/P0.4/PWMTRIP/PLAO[1] (io), 21 IRQ1/P0.5/ADCBUSY/PLAO[2] (io), 22 P2.0/SPM9/PLAO[5]~{/CONVSTART} (io), 23 P0.7/ECLK/XCLK/SPM8/PLAO[4] (io), 24 XCLKO (out), 25 XCLKI (in), 26 P1.7/SPM7/PLAO[0] (io), 27 P1.6/SPM6/PLAI[6] (io), 28 P1.5/SPM5/PLAI[5]/IRQ3 (io), 29 P1.4/SPM4/PLAI[4]/IRQ2 (io), 30 P1.3/SPM3/PLAI[3] (io), 31 P1.2/SPM2/PLAI[2] (io), 32 P1.1/SPM1/PLAI[1] (io), 33 P1.0/T1/SPM0/PLAI[0] (io), 34 VREF (in), 35 AGND (power), 36 AVDD (power), 37 ADC0 (in), 38 ADC1 (in), 39 ADC2/CMP0 (in), 40 ADC3/CMP1 (in), 41 Thermal Pad

## ADUC7021BCPZ62I
designator U?
12-Bit Data Acquisition SOC, 40 MIPS ARM7 Flash MCU, 8 Channel ADC, 2 Channel DAC, 13 I/Os, 40-Pin LFCSP_VQ, Pb-Free; Published: 30-Mar-2007; DatasheetVersion: RevA, Jan-2006; PackageVersion: Oct-2006; PackageReference: CP-40-1; Publisher: Altium Limited; PackageDescription: 40-Pin Lead Frame Chip Scale Package [LFCSP_VQ] Very Thin Quad; Code_JEDEC: MO-220-VJJD-2; ComponentLink1Description: Manufacturer Link; ComponentLink1URL: http://www.analog.com/en/prod/0,,762_0_ADUC7021%2C00.html; ComponentLink2Description: Datasheet; ComponentLink2URL: http://www.analog.com/UploadedFiles/Data_Sheets/ADUC7019_7020_7021_7022_7024_7025_7026_7027.pdf; ComponentLink3Description: Packaging Specification; ComponentLink3URL: http://www.analog.com/UploadedFiles/Packages/121879268CP_40_1.pdf
footprint CP-40-1_N (QFN, 40-Leads, Body 6x6mm, Pitch 0.5mm, IPC Medium Density)
footprint CP-40-1_L (QFN, 40-Leads, Body 6x6mm, Pitch 0.5mm, IPC High Density)
footprint CP-40-1_M (QFN, 40-Leads, Body 6x6mm, Pitch 0.5mm, IPC Low Density)
pins: 1 ADC4 (in), 2 ADC5 (in), 3 ADC6 (in), 4 ADC7 (in), 5 GNDREF (power), 6 DAC0/ADC12 (io), 7 DAC1/ADC13 (io), 8 TMS (in), 9 TDI (in), 10 BM/P0.0/CMPOUT/PLAI[7] (io), 11 P0.6/T1/MRST/PLAO[3] (io), 12 TCK (in), 13 TDO (out), 14 IOGND (power), 15 IOVDD (power), 16 LVDD (power), 17 DGND (power), 18 P0.3/TRST/ADCBUSY (io), 19 ~{RST} (in), 20 IRQ0/P0.4/PWMTRIP/PLAO[1] (io), 21 IRQ1/P0.5/ADCBUSY/PLAO[2] (io), 22 P2.0/SPM9/PLAO[5]~{/CONVSTART} (io), 23 P0.7/ECLK/XCLK/SPM8/PLAO[4] (io), 24 XCLKO (out), 25 XCLKI (in), 26 P1.7/SPM7/PLAO[0] (io), 27 P1.6/SPM6/PLAI[6] (io), 28 P1.5/SPM5/PLAI[5]/IRQ3 (io), 29 P1.4/SPM4/PLAI[4]/IRQ2 (io), 30 P1.3/SPM3/PLAI[3] (io), 31 P1.2/SPM2/PLAI[2] (io), 32 P1.1/SPM1/PLAI[1] (io), 33 P1.0/T1/SPM0/PLAI[0] (io), 34 VREF (in), 35 AGND (power), 36 AVDD (power), 37 ADC0 (in), 38 ADC1 (in), 39 ADC2/CMP0 (in), 40 ADC3/CMP1 (in), 41 Thermal Pad

## ADUC7021BCPZ62I-RL
designator U?
12-Bit Data Acquisition SOC, 40 MIPS ARM7 Flash MCU, 8 Channel ADC, 2 Channel DAC, 13 I/Os, 40-Pin LFCSP_VQ, Pb-Free; Published: 30-Mar-2007; DatasheetVersion: RevA, Jan-2006; PackageVersion: Oct-2006; PackageReference: CP-40-1; Publisher: Altium Limited; PackageDescription: 40-Pin Lead Frame Chip Scale Package [LFCSP_VQ] Very Thin Quad; Code_JEDEC: MO-220-VJJD-2; ComponentLink1Description: Manufacturer Link; ComponentLink1URL: http://www.analog.com/en/prod/0,,762_0_ADUC7021%2C00.html; ComponentLink2Description: Datasheet; ComponentLink2URL: http://www.analog.com/UploadedFiles/Data_Sheets/ADUC7019_7020_7021_7022_7024_7025_7026_7027.pdf; ComponentLink3Description: Packaging Specification; ComponentLink3URL: http://www.analog.com/UploadedFiles/Packages/121879268CP_40_1.pdf
footprint CP-40-1_N (QFN, 40-Leads, Body 6x6mm, Pitch 0.5mm, IPC Medium Density)
footprint CP-40-1_L (QFN, 40-Leads, Body 6x6mm, Pitch 0.5mm, IPC High Density)
footprint CP-40-1_M (QFN, 40-Leads, Body 6x6mm, Pitch 0.5mm, IPC Low Density)
pins: 1 ADC4 (in), 2 ADC5 (in), 3 ADC6 (in), 4 ADC7 (in), 5 GNDREF (power), 6 DAC0/ADC12 (io), 7 DAC1/ADC13 (io), 8 TMS (in), 9 TDI (in), 10 BM/P0.0/CMPOUT/PLAI[7] (io), 11 P0.6/T1/MRST/PLAO[3] (io), 12 TCK (in), 13 TDO (out), 14 IOGND (power), 15 IOVDD (power), 16 LVDD (power), 17 DGND (power), 18 P0.3/TRST/ADCBUSY (io), 19 ~{RST} (in), 20 IRQ0/P0.4/PWMTRIP/PLAO[1] (io), 21 IRQ1/P0.5/ADCBUSY/PLAO[2] (io), 22 P2.0/SPM9/PLAO[5]~{/CONVSTART} (io), 23 P0.7/ECLK/XCLK/SPM8/PLAO[4] (io), 24 XCLKO (out), 25 XCLKI (in), 26 P1.7/SPM7/PLAO[0] (io), 27 P1.6/SPM6/PLAI[6] (io), 28 P1.5/SPM5/PLAI[5]/IRQ3 (io), 29 P1.4/SPM4/PLAI[4]/IRQ2 (io), 30 P1.3/SPM3/PLAI[3] (io), 31 P1.2/SPM2/PLAI[2] (io), 32 P1.1/SPM1/PLAI[1] (io), 33 P1.0/T1/SPM0/PLAI[0] (io), 34 VREF (in), 35 AGND (power), 36 AVDD (power), 37 ADC0 (in), 38 ADC1 (in), 39 ADC2/CMP0 (in), 40 ADC3/CMP1 (in), 41 Thermal Pad

## ADUC7021BCPZ62IRL7
designator U?
12-Bit Data Acquisition SOC, 40 MIPS ARM7 Flash MCU, 8 Channel ADC, 2 Channel DAC, 13 I/Os, 40-Pin LFCSP_VQ, Pb-Free; Published: 30-Mar-2007; DatasheetVersion: RevA, Jan-2006; PackageVersion: Oct-2006; PackageReference: CP-40-1; Publisher: Altium Limited; PackageDescription: 40-Pin Lead Frame Chip Scale Package [LFCSP_VQ] Very Thin Quad; Code_JEDEC: MO-220-VJJD-2; ComponentLink1Description: Manufacturer Link; ComponentLink1URL: http://www.analog.com/en/prod/0,,762_0_ADUC7021%2C00.html; ComponentLink2Description: Datasheet; ComponentLink2URL: http://www.analog.com/UploadedFiles/Data_Sheets/ADUC7019_7020_7021_7022_7024_7025_7026_7027.pdf; ComponentLink3Description: Packaging Specification; ComponentLink3URL: http://www.analog.com/UploadedFiles/Packages/121879268CP_40_1.pdf
footprint CP-40-1_N (QFN, 40-Leads, Body 6x6mm, Pitch 0.5mm, IPC Medium Density)
footprint CP-40-1_L (QFN, 40-Leads, Body 6x6mm, Pitch 0.5mm, IPC High Density)
footprint CP-40-1_M (QFN, 40-Leads, Body 6x6mm, Pitch 0.5mm, IPC Low Density)
pins: 1 ADC4 (in), 2 ADC5 (in), 3 ADC6 (in), 4 ADC7 (in), 5 GNDREF (power), 6 DAC0/ADC12 (io), 7 DAC1/ADC13 (io), 8 TMS (in), 9 TDI (in), 10 BM/P0.0/CMPOUT/PLAI[7] (io), 11 P0.6/T1/MRST/PLAO[3] (io), 12 TCK (in), 13 TDO (out), 14 IOGND (power), 15 IOVDD (power), 16 LVDD (power), 17 DGND (power), 18 P0.3/TRST/ADCBUSY (io), 19 ~{RST} (in), 20 IRQ0/P0.4/PWMTRIP/PLAO[1] (io), 21 IRQ1/P0.5/ADCBUSY/PLAO[2] (io), 22 P2.0/SPM9/PLAO[5]~{/CONVSTART} (io), 23 P0.7/ECLK/XCLK/SPM8/PLAO[4] (io), 24 XCLKO (out), 25 XCLKI (in), 26 P1.7/SPM7/PLAO[0] (io), 27 P1.6/SPM6/PLAI[6] (io), 28 P1.5/SPM5/PLAI[5]/IRQ3 (io), 29 P1.4/SPM4/PLAI[4]/IRQ2 (io), 30 P1.3/SPM3/PLAI[3] (io), 31 P1.2/SPM2/PLAI[2] (io), 32 P1.1/SPM1/PLAI[1] (io), 33 P1.0/T1/SPM0/PLAI[0] (io), 34 VREF (in), 35 AGND (power), 36 AVDD (power), 37 ADC0 (in), 38 ADC1 (in), 39 ADC2/CMP0 (in), 40 ADC3/CMP1 (in), 41 Thermal Pad

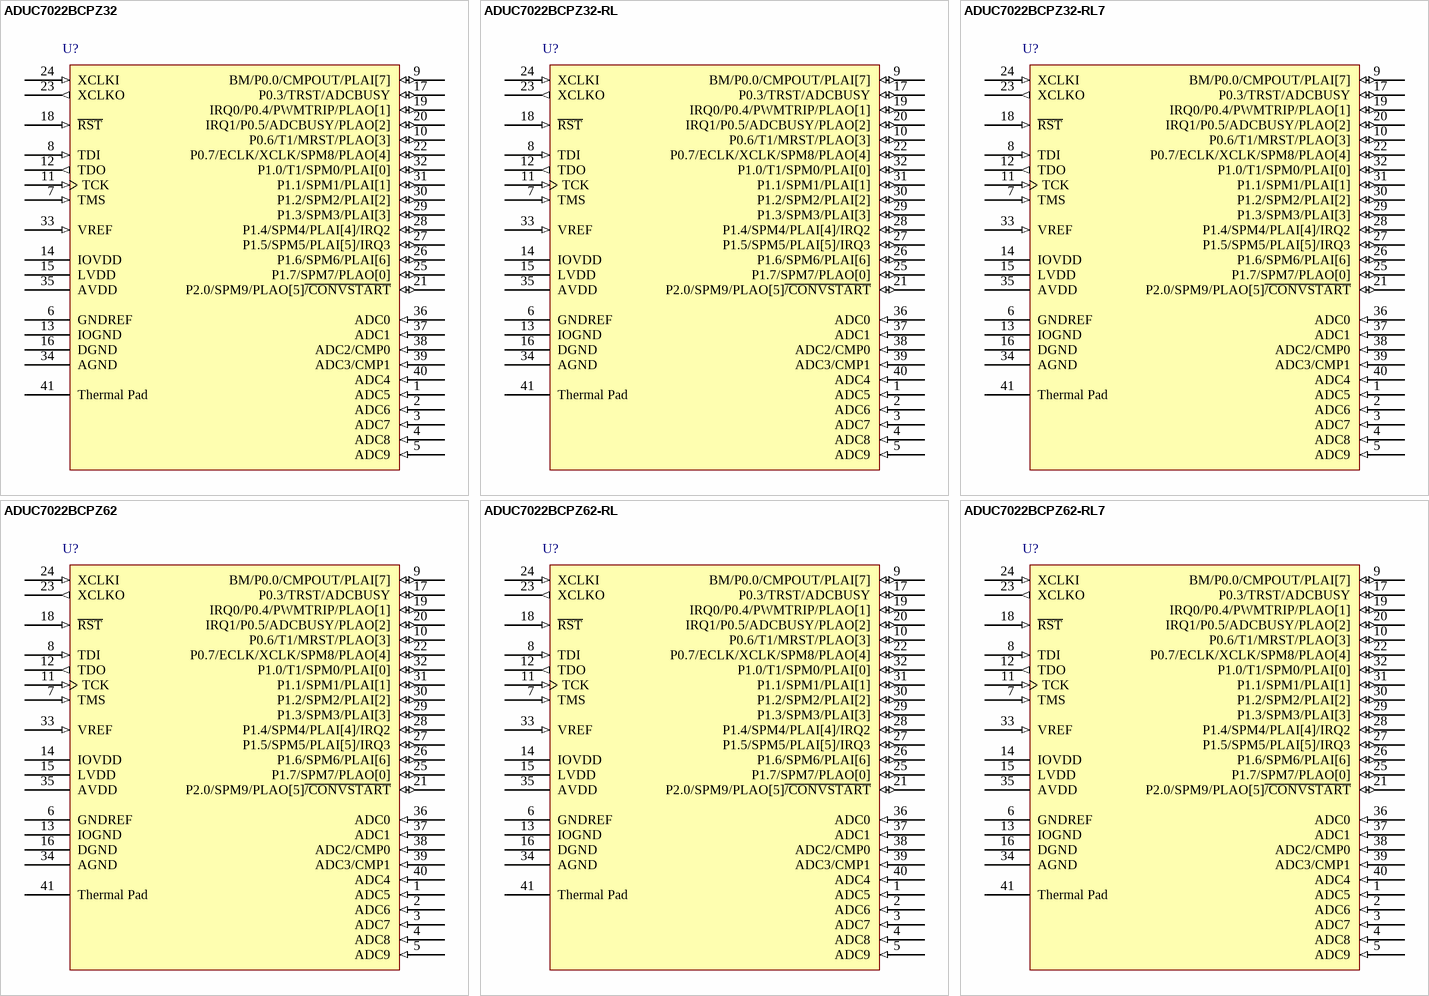
[diagram p2: symbols ADUC7022BCPZ32 to ADUC7022BCPZ62-RL7]

## ADUC7022BCPZ32
designator U?
12-Bit Data Acquisition SOC, 40 MIPS ARM7 Flash MCU, 10 Channel ADC, 13 I/Os, 40-Pin LFCSP_VQ, Pb-Free; Published: 30-Mar-2007; DatasheetVersion: RevA, Jan-2006; PackageVersion: Oct-2006; PackageReference: CP-40-1; Publisher: Altium Limited; PackageDescription: 40-Pin Lead Frame Chip Scale Package [LFCSP_VQ] Very Thin Quad; Code_JEDEC: MO-220-VJJD-2; ComponentLink1Description: Manufacturer Link; ComponentLink1URL: http://www.analog.com/en/prod/0,,762_0_ADUC7022%2C00.html; ComponentLink2Description: Datasheet; ComponentLink2URL: http://www.analog.com/UploadedFiles/Data_Sheets/ADUC7019_7020_7021_7022_7024_7025_7026_7027.pdf; ComponentLink3Description: Packaging Specification; ComponentLink3URL: http://www.analog.com/UploadedFiles/Packages/121879268CP_40_1.pdf
footprint CP-40-1_N (QFN, 40-Leads, Body 6x6mm, Pitch 0.5mm, IPC Medium Density)
footprint CP-40-1_L (QFN, 40-Leads, Body 6x6mm, Pitch 0.5mm, IPC High Density)
footprint CP-40-1_M (QFN, 40-Leads, Body 6x6mm, Pitch 0.5mm, IPC Low Density)
pins: 1 ADC5 (in), 2 ADC6 (in), 3 ADC7 (in), 4 ADC8 (in), 5 ADC9 (in), 6 GNDREF (power), 7 TMS (in), 8 TDI (in), 9 BM/P0.0/CMPOUT/PLAI[7] (io), 10 P0.6/T1/MRST/PLAO[3] (io), 11 TCK (in), 12 TDO (out), 13 IOGND (power), 14 IOVDD (power), 15 LVDD (power), 16 DGND (power), 17 P0.3/TRST/ADCBUSY (io), 18 ~{RST} (in), 19 IRQ0/P0.4/PWMTRIP/PLAO[1] (io), 20 IRQ1/P0.5/ADCBUSY/PLAO[2] (io), 21 P2.0/SPM9/PLAO[5]~{/CONVSTART} (io), 22 P0.7/ECLK/XCLK/SPM8/PLAO[4] (io), 23 XCLKO (out), 24 XCLKI (in), 25 P1.7/SPM7/PLAO[0] (io), 26 P1.6/SPM6/PLAI[6] (io), 27 P1.5/SPM5/PLAI[5]/IRQ3 (io), 28 P1.4/SPM4/PLAI[4]/IRQ2 (io), 29 P1.3/SPM3/PLAI[3] (io), 30 P1.2/SPM2/PLAI[2] (io), 31 P1.1/SPM1/PLAI[1] (io), 32 P1.0/T1/SPM0/PLAI[0] (io), 33 VREF (in), 34 AGND (power), 35 AVDD (power), 36 ADC0 (in), 37 ADC1 (in), 38 ADC2/CMP0 (in), 39 ADC3/CMP1 (in), 40 ADC4 (in), 41 Thermal Pad

## ADUC7022BCPZ32-RL
designator U?
12-Bit Data Acquisition SOC, 40 MIPS ARM7 Flash MCU, 10 Channel ADC, 13 I/Os, 40-Pin LFCSP_VQ, Pb-Free; Published: 30-Mar-2007; DatasheetVersion: RevA, Jan-2006; PackageVersion: Oct-2006; PackageReference: CP-40-1; Publisher: Altium Limited; PackageDescription: 40-Pin Lead Frame Chip Scale Package [LFCSP_VQ] Very Thin Quad; Code_JEDEC: MO-220-VJJD-2; ComponentLink1Description: Manufacturer Link; ComponentLink1URL: http://www.analog.com/en/prod/0,,762_0_ADUC7022%2C00.html; ComponentLink2Description: Datasheet; ComponentLink2URL: http://www.analog.com/UploadedFiles/Data_Sheets/ADUC7019_7020_7021_7022_7024_7025_7026_7027.pdf; ComponentLink3Description: Packaging Specification; ComponentLink3URL: http://www.analog.com/UploadedFiles/Packages/121879268CP_40_1.pdf
footprint CP-40-1_N (QFN, 40-Leads, Body 6x6mm, Pitch 0.5mm, IPC Medium Density)
footprint CP-40-1_L (QFN, 40-Leads, Body 6x6mm, Pitch 0.5mm, IPC High Density)
footprint CP-40-1_M (QFN, 40-Leads, Body 6x6mm, Pitch 0.5mm, IPC Low Density)
pins: 1 ADC5 (in), 2 ADC6 (in), 3 ADC7 (in), 4 ADC8 (in), 5 ADC9 (in), 6 GNDREF (power), 7 TMS (in), 8 TDI (in), 9 BM/P0.0/CMPOUT/PLAI[7] (io), 10 P0.6/T1/MRST/PLAO[3] (io), 11 TCK (in), 12 TDO (out), 13 IOGND (power), 14 IOVDD (power), 15 LVDD (power), 16 DGND (power), 17 P0.3/TRST/ADCBUSY (io), 18 ~{RST} (in), 19 IRQ0/P0.4/PWMTRIP/PLAO[1] (io), 20 IRQ1/P0.5/ADCBUSY/PLAO[2] (io), 21 P2.0/SPM9/PLAO[5]~{/CONVSTART} (io), 22 P0.7/ECLK/XCLK/SPM8/PLAO[4] (io), 23 XCLKO (out), 24 XCLKI (in), 25 P1.7/SPM7/PLAO[0] (io), 26 P1.6/SPM6/PLAI[6] (io), 27 P1.5/SPM5/PLAI[5]/IRQ3 (io), 28 P1.4/SPM4/PLAI[4]/IRQ2 (io), 29 P1.3/SPM3/PLAI[3] (io), 30 P1.2/SPM2/PLAI[2] (io), 31 P1.1/SPM1/PLAI[1] (io), 32 P1.0/T1/SPM0/PLAI[0] (io), 33 VREF (in), 34 AGND (power), 35 AVDD (power), 36 ADC0 (in), 37 ADC1 (in), 38 ADC2/CMP0 (in), 39 ADC3/CMP1 (in), 40 ADC4 (in), 41 Thermal Pad

## ADUC7022BCPZ32-RL7
designator U?
12-Bit Data Acquisition SOC, 40 MIPS ARM7 Flash MCU, 10 Channel ADC, 13 I/Os, 40-Pin LFCSP_VQ, Pb-Free; Published: 30-Mar-2007; DatasheetVersion: RevA, Jan-2006; PackageVersion: Oct-2006; PackageReference: CP-40-1; Publisher: Altium Limited; PackageDescription: 40-Pin Lead Frame Chip Scale Package [LFCSP_VQ] Very Thin Quad; Code_JEDEC: MO-220-VJJD-2; ComponentLink1Description: Manufacturer Link; ComponentLink1URL: http://www.analog.com/en/prod/0,,762_0_ADUC7022%2C00.html; ComponentLink2Description: Datasheet; ComponentLink2URL: http://www.analog.com/UploadedFiles/Data_Sheets/ADUC7019_7020_7021_7022_7024_7025_7026_7027.pdf; ComponentLink3Description: Packaging Specification; ComponentLink3URL: http://www.analog.com/UploadedFiles/Packages/121879268CP_40_1.pdf
footprint CP-40-1_N (QFN, 40-Leads, Body 6x6mm, Pitch 0.5mm, IPC Medium Density)
footprint CP-40-1_L (QFN, 40-Leads, Body 6x6mm, Pitch 0.5mm, IPC High Density)
footprint CP-40-1_M (QFN, 40-Leads, Body 6x6mm, Pitch 0.5mm, IPC Low Density)
pins: 1 ADC5 (in), 2 ADC6 (in), 3 ADC7 (in), 4 ADC8 (in), 5 ADC9 (in), 6 GNDREF (power), 7 TMS (in), 8 TDI (in), 9 BM/P0.0/CMPOUT/PLAI[7] (io), 10 P0.6/T1/MRST/PLAO[3] (io), 11 TCK (in), 12 TDO (out), 13 IOGND (power), 14 IOVDD (power), 15 LVDD (power), 16 DGND (power), 17 P0.3/TRST/ADCBUSY (io), 18 ~{RST} (in), 19 IRQ0/P0.4/PWMTRIP/PLAO[1] (io), 20 IRQ1/P0.5/ADCBUSY/PLAO[2] (io), 21 P2.0/SPM9/PLAO[5]~{/CONVSTART} (io), 22 P0.7/ECLK/XCLK/SPM8/PLAO[4] (io), 23 XCLKO (out), 24 XCLKI (in), 25 P1.7/SPM7/PLAO[0] (io), 26 P1.6/SPM6/PLAI[6] (io), 27 P1.5/SPM5/PLAI[5]/IRQ3 (io), 28 P1.4/SPM4/PLAI[4]/IRQ2 (io), 29 P1.3/SPM3/PLAI[3] (io), 30 P1.2/SPM2/PLAI[2] (io), 31 P1.1/SPM1/PLAI[1] (io), 32 P1.0/T1/SPM0/PLAI[0] (io), 33 VREF (in), 34 AGND (power), 35 AVDD (power), 36 ADC0 (in), 37 ADC1 (in), 38 ADC2/CMP0 (in), 39 ADC3/CMP1 (in), 40 ADC4 (in), 41 Thermal Pad

## ADUC7022BCPZ62
designator U?
12-Bit Data Acquisition SOC, 40 MIPS ARM7 Flash MCU, 10 Channel ADC, 13 I/Os, 40-Pin LFCSP_VQ, Pb-Free; Published: 30-Mar-2007; DatasheetVersion: RevA, Jan-2006; PackageVersion: Oct-2006; PackageReference: CP-40-1; Publisher: Altium Limited; PackageDescription: 40-Pin Lead Frame Chip Scale Package [LFCSP_VQ] Very Thin Quad; Code_JEDEC: MO-220-VJJD-2; ComponentLink1Description: Manufacturer Link; ComponentLink1URL: http://www.analog.com/en/prod/0,,762_0_ADUC7022%2C00.html; ComponentLink2Description: Datasheet; ComponentLink2URL: http://www.analog.com/UploadedFiles/Data_Sheets/ADUC7019_7020_7021_7022_7024_7025_7026_7027.pdf; ComponentLink3Description: Packaging Specification; ComponentLink3URL: http://www.analog.com/UploadedFiles/Packages/121879268CP_40_1.pdf
footprint CP-40-1_N (QFN, 40-Leads, Body 6x6mm, Pitch 0.5mm, IPC Medium Density)
footprint CP-40-1_L (QFN, 40-Leads, Body 6x6mm, Pitch 0.5mm, IPC High Density)
footprint CP-40-1_M (QFN, 40-Leads, Body 6x6mm, Pitch 0.5mm, IPC Low Density)
pins: 1 ADC5 (in), 2 ADC6 (in), 3 ADC7 (in), 4 ADC8 (in), 5 ADC9 (in), 6 GNDREF (power), 7 TMS (in), 8 TDI (in), 9 BM/P0.0/CMPOUT/PLAI[7] (io), 10 P0.6/T1/MRST/PLAO[3] (io), 11 TCK (in), 12 TDO (out), 13 IOGND (power), 14 IOVDD (power), 15 LVDD (power), 16 DGND (power), 17 P0.3/TRST/ADCBUSY (io), 18 ~{RST} (in), 19 IRQ0/P0.4/PWMTRIP/PLAO[1] (io), 20 IRQ1/P0.5/ADCBUSY/PLAO[2] (io), 21 P2.0/SPM9/PLAO[5]~{/CONVSTART} (io), 22 P0.7/ECLK/XCLK/SPM8/PLAO[4] (io), 23 XCLKO (out), 24 XCLKI (in), 25 P1.7/SPM7/PLAO[0] (io), 26 P1.6/SPM6/PLAI[6] (io), 27 P1.5/SPM5/PLAI[5]/IRQ3 (io), 28 P1.4/SPM4/PLAI[4]/IRQ2 (io), 29 P1.3/SPM3/PLAI[3] (io), 30 P1.2/SPM2/PLAI[2] (io), 31 P1.1/SPM1/PLAI[1] (io), 32 P1.0/T1/SPM0/PLAI[0] (io), 33 VREF (in), 34 AGND (power), 35 AVDD (power), 36 ADC0 (in), 37 ADC1 (in), 38 ADC2/CMP0 (in), 39 ADC3/CMP1 (in), 40 ADC4 (in), 41 Thermal Pad

## ADUC7022BCPZ62-RL
designator U?
12-Bit Data Acquisition SOC, 40 MIPS ARM7 Flash MCU, 10 Channel ADC, 13 I/Os, 40-Pin LFCSP_VQ, Pb-Free; Published: 30-Mar-2007; DatasheetVersion: RevA, Jan-2006; PackageVersion: Oct-2006; PackageReference: CP-40-1; Publisher: Altium Limited; PackageDescription: 40-Pin Lead Frame Chip Scale Package [LFCSP_VQ] Very Thin Quad; Code_JEDEC: MO-220-VJJD-2; ComponentLink1Description: Manufacturer Link; ComponentLink1URL: http://www.analog.com/en/prod/0,,762_0_ADUC7022%2C00.html; ComponentLink2Description: Datasheet; ComponentLink2URL: http://www.analog.com/UploadedFiles/Data_Sheets/ADUC7019_7020_7021_7022_7024_7025_7026_7027.pdf; ComponentLink3Description: Packaging Specification; ComponentLink3URL: http://www.analog.com/UploadedFiles/Packages/121879268CP_40_1.pdf
footprint CP-40-1_N (QFN, 40-Leads, Body 6x6mm, Pitch 0.5mm, IPC Medium Density)
footprint CP-40-1_L (QFN, 40-Leads, Body 6x6mm, Pitch 0.5mm, IPC High Density)
footprint CP-40-1_M (QFN, 40-Leads, Body 6x6mm, Pitch 0.5mm, IPC Low Density)
pins: 1 ADC5 (in), 2 ADC6 (in), 3 ADC7 (in), 4 ADC8 (in), 5 ADC9 (in), 6 GNDREF (power), 7 TMS (in), 8 TDI (in), 9 BM/P0.0/CMPOUT/PLAI[7] (io), 10 P0.6/T1/MRST/PLAO[3] (io), 11 TCK (in), 12 TDO (out), 13 IOGND (power), 14 IOVDD (power), 15 LVDD (power), 16 DGND (power), 17 P0.3/TRST/ADCBUSY (io), 18 ~{RST} (in), 19 IRQ0/P0.4/PWMTRIP/PLAO[1] (io), 20 IRQ1/P0.5/ADCBUSY/PLAO[2] (io), 21 P2.0/SPM9/PLAO[5]~{/CONVSTART} (io), 22 P0.7/ECLK/XCLK/SPM8/PLAO[4] (io), 23 XCLKO (out), 24 XCLKI (in), 25 P1.7/SPM7/PLAO[0] (io), 26 P1.6/SPM6/PLAI[6] (io), 27 P1.5/SPM5/PLAI[5]/IRQ3 (io), 28 P1.4/SPM4/PLAI[4]/IRQ2 (io), 29 P1.3/SPM3/PLAI[3] (io), 30 P1.2/SPM2/PLAI[2] (io), 31 P1.1/SPM1/PLAI[1] (io), 32 P1.0/T1/SPM0/PLAI[0] (io), 33 VREF (in), 34 AGND (power), 35 AVDD (power), 36 ADC0 (in), 37 ADC1 (in), 38 ADC2/CMP0 (in), 39 ADC3/CMP1 (in), 40 ADC4 (in), 41 Thermal Pad

## ADUC7022BCPZ62-RL7
designator U?
12-Bit Data Acquisition SOC, 40 MIPS ARM7 Flash MCU, 10 Channel ADC, 13 I/Os, 40-Pin LFCSP_VQ, Pb-Free; Published: 30-Mar-2007; DatasheetVersion: RevA, Jan-2006; PackageVersion: Oct-2006; PackageReference: CP-40-1; Publisher: Altium Limited; PackageDescription: 40-Pin Lead Frame Chip Scale Package [LFCSP_VQ] Very Thin Quad; Code_JEDEC: MO-220-VJJD-2; ComponentLink1Description: Manufacturer Link; ComponentLink1URL: http://www.analog.com/en/prod/0,,762_0_ADUC7022%2C00.html; ComponentLink2Description: Datasheet; ComponentLink2URL: http://www.analog.com/UploadedFiles/Data_Sheets/ADUC7019_7020_7021_7022_7024_7025_7026_7027.pdf; ComponentLink3Description: Packaging Specification; ComponentLink3URL: http://www.analog.com/UploadedFiles/Packages/121879268CP_40_1.pdf
footprint CP-40-1_N (QFN, 40-Leads, Body 6x6mm, Pitch 0.5mm, IPC Medium Density)
footprint CP-40-1_L (QFN, 40-Leads, Body 6x6mm, Pitch 0.5mm, IPC High Density)
footprint CP-40-1_M (QFN, 40-Leads, Body 6x6mm, Pitch 0.5mm, IPC Low Density)
pins: 1 ADC5 (in), 2 ADC6 (in), 3 ADC7 (in), 4 ADC8 (in), 5 ADC9 (in), 6 GNDREF (power), 7 TMS (in), 8 TDI (in), 9 BM/P0.0/CMPOUT/PLAI[7] (io), 10 P0.6/T1/MRST/PLAO[3] (io), 11 TCK (in), 12 TDO (out), 13 IOGND (power), 14 IOVDD (power), 15 LVDD (power), 16 DGND (power), 17 P0.3/TRST/ADCBUSY (io), 18 ~{RST} (in), 19 IRQ0/P0.4/PWMTRIP/PLAO[1] (io), 20 IRQ1/P0.5/ADCBUSY/PLAO[2] (io), 21 P2.0/SPM9/PLAO[5]~{/CONVSTART} (io), 22 P0.7/ECLK/XCLK/SPM8/PLAO[4] (io), 23 XCLKO (out), 24 XCLKI (in), 25 P1.7/SPM7/PLAO[0] (io), 26 P1.6/SPM6/PLAI[6] (io), 27 P1.5/SPM5/PLAI[5]/IRQ3 (io), 28 P1.4/SPM4/PLAI[4]/IRQ2 (io), 29 P1.3/SPM3/PLAI[3] (io), 30 P1.2/SPM2/PLAI[2] (io), 31 P1.1/SPM1/PLAI[1] (io), 32 P1.0/T1/SPM0/PLAI[0] (io), 33 VREF (in), 34 AGND (power), 35 AVDD (power), 36 ADC0 (in), 37 ADC1 (in), 38 ADC2/CMP0 (in), 39 ADC3/CMP1 (in), 40 ADC4 (in), 41 Thermal Pad

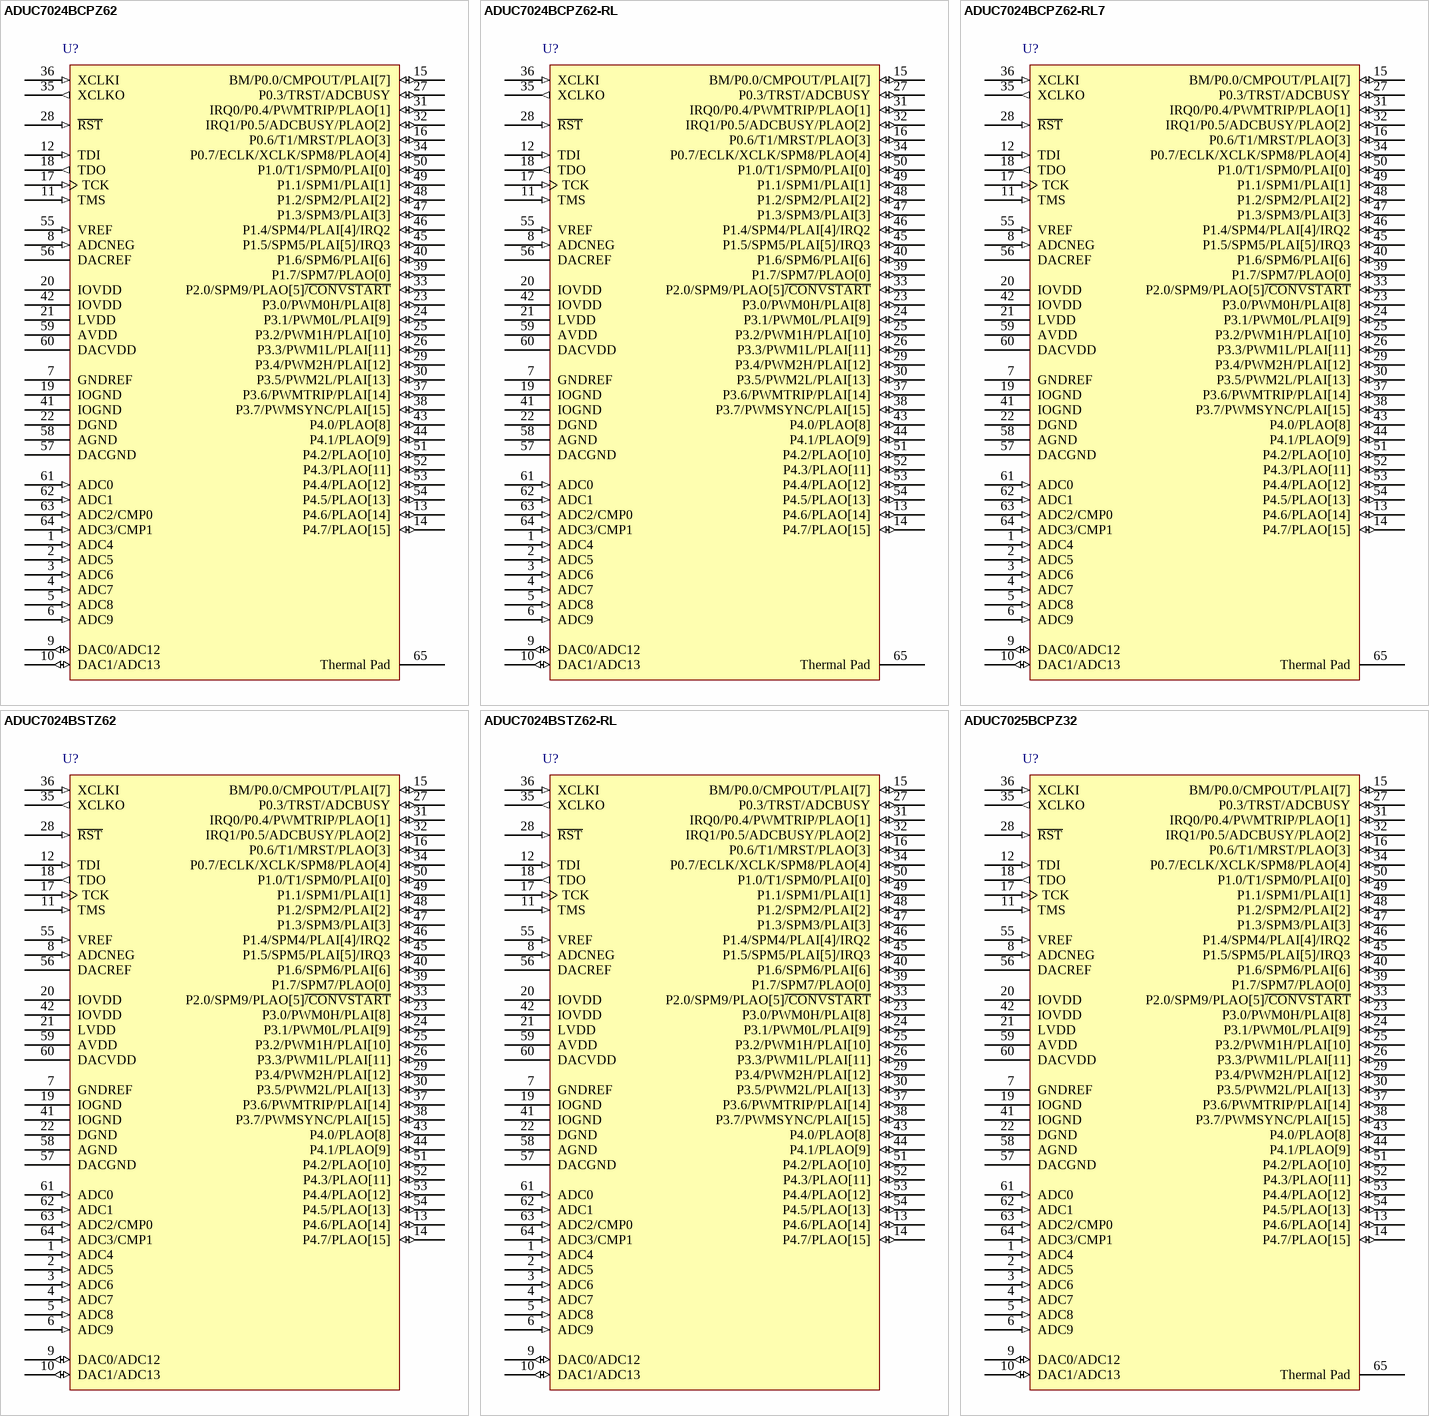
[diagram p3: symbols ADUC7024BCPZ62 to ADUC7025BCPZ32]

## ADUC7024BCPZ62
designator U?
12-Bit Data Acquisition SOC, 40 MIPS ARM7 Flash MCU, 10 Channel ADC, 2 Channel DAC, 30 I/Os, 64-Pin LFCSP_VQ, Pb-Free; Published: 30-Mar-2007; DatasheetVersion: RevA, Jan-2006; PackageVersion: Apr-2004; PackageReference: CP-64-1; Publisher: Altium Limited; PackageDescription: 64-Pin Lead Frame Chip Scale Package [LFCSP] Very Thin Quad; Code_JEDEC: MO-220-VMMD; ComponentLink1Description: Manufacturer Link; ComponentLink1URL: http://www.analog.com/en/prod/0,,762_0_ADUC7024%2C00.html; ComponentLink2Description: Datasheet; ComponentLink2URL: http://www.analog.com/UploadedFiles/Data_Sheets/ADUC7019_7020_7021_7022_7024_7025_7026_7027.pdf; ComponentLink3Description: Packaging Specification; ComponentLink3URL: http://www.analog.com/UploadedFiles/Packages/40887351787287CP_64_1.pdf
footprint CP-64-1_N (QFN, 64-Leads, Body 9x9mm, Pitch 0.5mm, IPC Medium Density)
footprint CP-64-1_L (QFN, 64-Leads, Body 9x9mm, Pitch 0.5mm, IPC High Density)
footprint CP-64-1_M (QFN, 64-Leads, Body 9x9mm, Pitch 0.5mm, IPC Low Density)
pins: 1 ADC4 (in), 2 ADC5 (in), 3 ADC6 (in), 4 ADC7 (in), 5 ADC8 (in), 6 ADC9 (in), 7 GNDREF (power), 8 ADCNEG (in), 9 DAC0/ADC12 (io), 10 DAC1/ADC13 (io), 11 TMS (in), 12 TDI (in), 13 P4.6/PLAO[14] (io), 14 P4.7/PLAO[15] (io), 15 BM/P0.0/CMPOUT/PLAI[7] (io), 16 P0.6/T1/MRST/PLAO[3] (io), 17 TCK (in), 18 TDO (out), 19 IOGND (power), 20 IOVDD (power), 21 LVDD (power), 22 DGND (power), 23 P3.0/PWM0H/PLAI[8] (io), 24 P3.1/PWM0L/PLAI[9] (io), 25 P3.2/PWM1H/PLAI[10] (io), 26 P3.3/PWM1L/PLAI[11] (io), 27 P0.3/TRST/ADCBUSY (io), 28 ~{RST} (in), 29 P3.4/PWM2H/PLAI[12] (io), 30 P3.5/PWM2L/PLAI[13] (io), 31 IRQ0/P0.4/PWMTRIP/PLAO[1] (io), 32 IRQ1/P0.5/ADCBUSY/PLAO[2] (io), 33 P2.0/SPM9/PLAO[5]~{/CONVSTART} (io), 34 P0.7/ECLK/XCLK/SPM8/PLAO[4] (io), 35 XCLKO (out), 36 XCLKI (in), 37 P3.6/PWMTRIP/PLAI[14] (io), 38 P3.7/PWMSYNC/PLAI[15] (io), 39 P1.7/SPM7/PLAO[0] (io), 40 P1.6/SPM6/PLAI[6] (io), 41 IOGND (power), 42 IOVDD (power), 43 P4.0/PLAO[8] (io), 44 P4.1/PLAO[9] (io), 45 P1.5/SPM5/PLAI[5]/IRQ3 (io), 46 P1.4/SPM4/PLAI[4]/IRQ2 (io), 47 P1.3/SPM3/PLAI[3] (io), 48 P1.2/SPM2/PLAI[2] (io), 49 P1.1/SPM1/PLAI[1] (io), 50 P1.0/T1/SPM0/PLAI[0] (io), 51 P4.2/PLAO[10] (io), 52 P4.3/PLAO[11] (io), 53 P4.4/PLAO[12] (io), 54 P4.5/PLAO[13] (io), 55 VREF (in), 56 DACREF (power), 57 DACGND (power), 58 AGND (power), 59 AVDD (power), 60 DACVDD (power), 61 ADC0 (in), 62 ADC1 (in), 63 ADC2/CMP0 (in), 64 ADC3/CMP1 (in), 65 Thermal Pad